# Altium schematic symbol library connectors.SchLib: 77 symbols
Pins are listed as number, name and electrical type; pins without a type are passive.

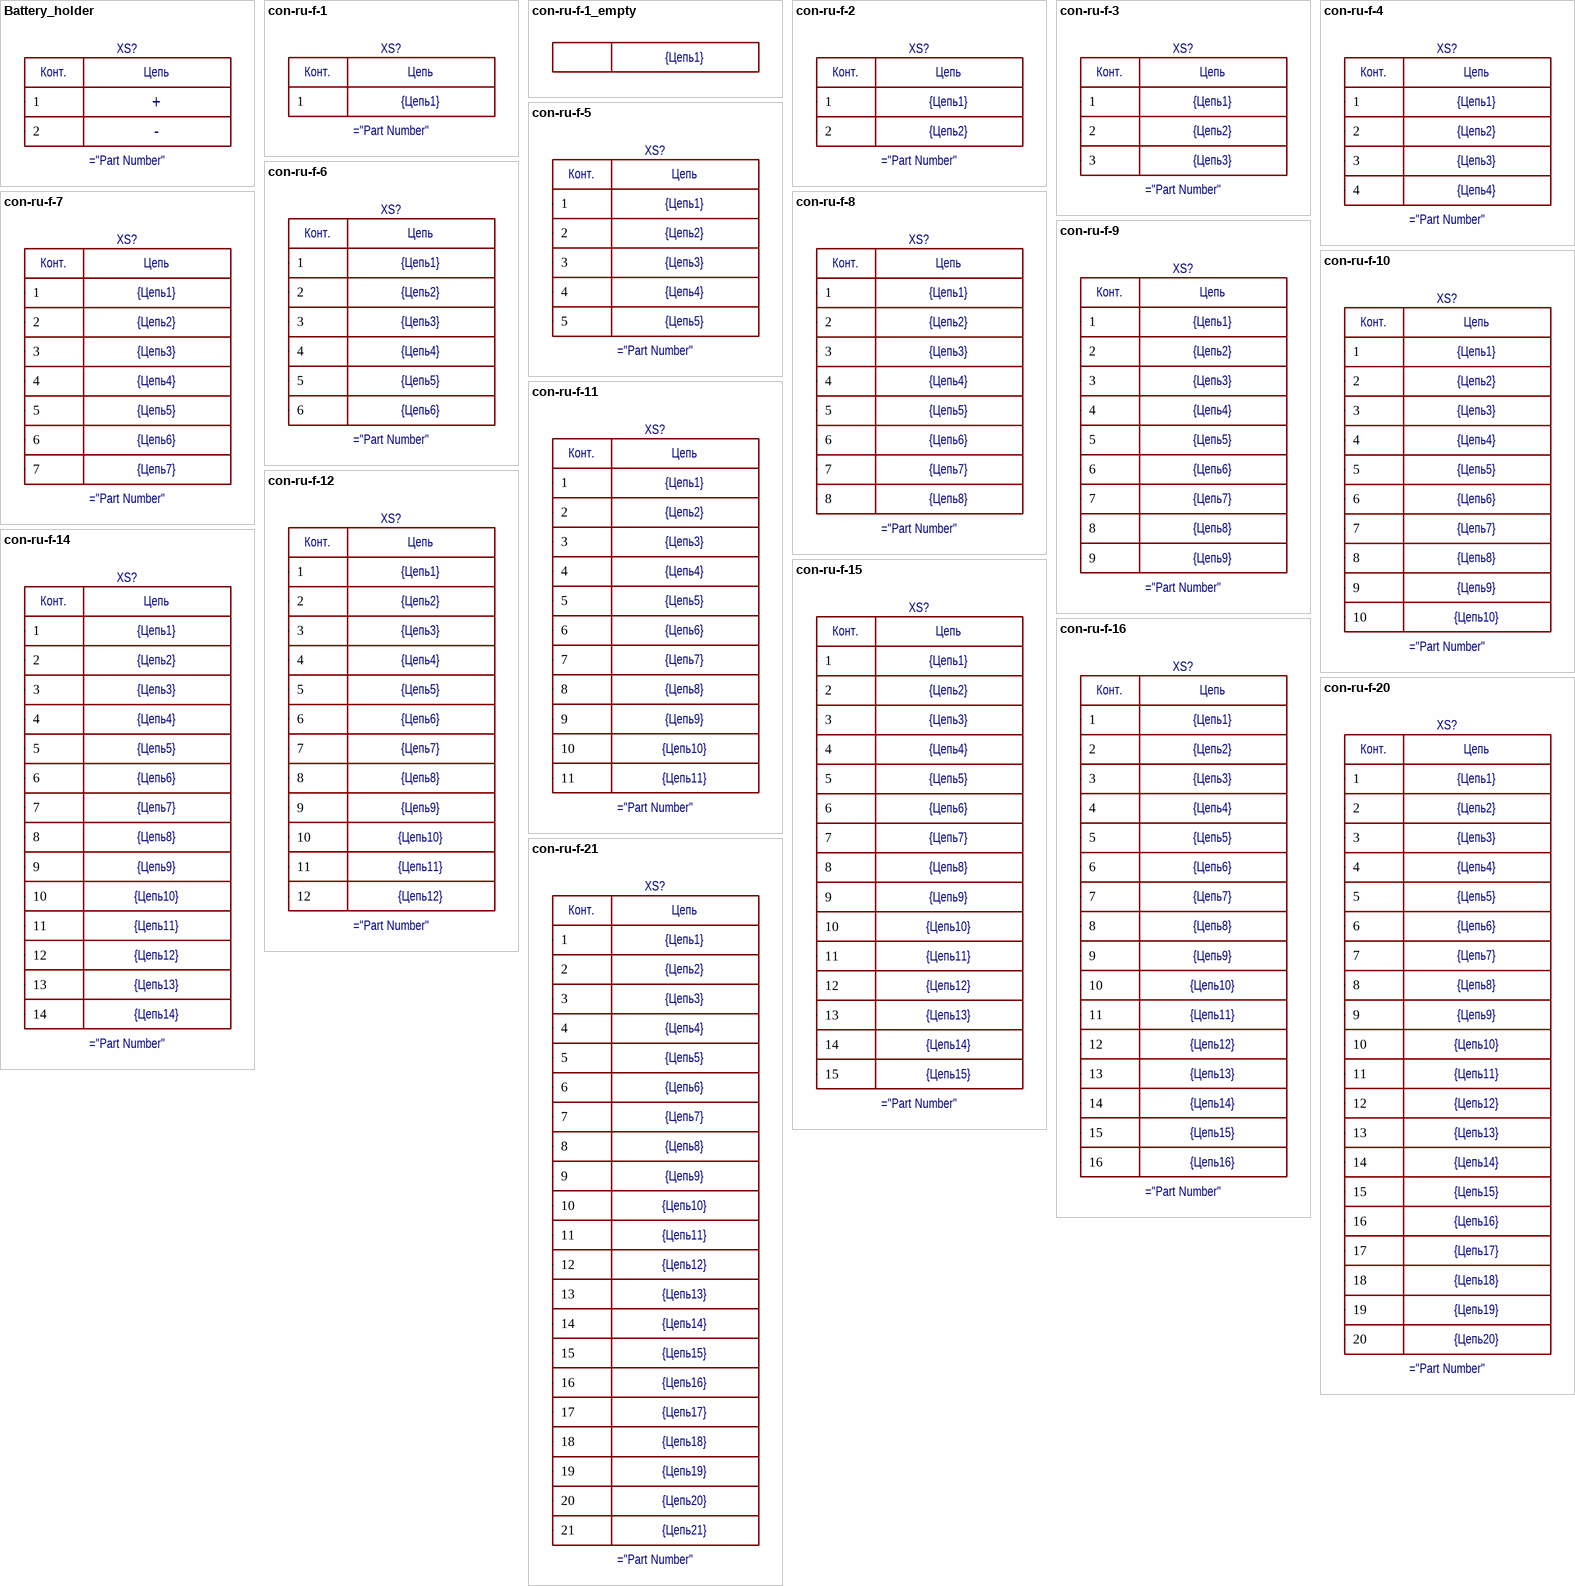
[diagram p0: symbols Battery_holder to con-ru-f-21]

## Battery_holder
designator XS?  Цепь1: +
Цепь2: -
pins: 1, 2
text: Конт.; Цепь

## con-ru-f-1
designator XS?  Цепь1: {Цепь1}
pins: 1
text: Конт.; Цепь

## con-ru-f-1_empty
designator XS?  Цепь1: {Цепь1}
pins: 1

## con-ru-f-2
designator XS?  Цепь2: {Цепь2}  Цепь1: {Цепь1}
pins: 1, 2
text: Конт.; Цепь

## con-ru-f-3
designator XS?  Цепь2: {Цепь2}  Цепь1: {Цепь1}  Цепь3: {Цепь3}
pins: 1, 2, 3
text: Конт.; Цепь

## con-ru-f-4
designator XS?  Цепь2: {Цепь2}  Цепь4: {Цепь4}  Цепь3: {Цепь3}  Цепь1: {Цепь1}
pins: 1, 2, 3, 4
text: Конт.; Цепь

## con-ru-f-5
designator XS?  Цепь5: {Цепь5}  Цепь2: {Цепь2}  Цепь4: {Цепь4}  Цепь3: {Цепь3}  Цепь1: {Цепь1}
pins: 1, 2, 3, 4, 5
text: Конт.; Цепь

## con-ru-f-6
designator XS?  Цепь5: {Цепь5}  Цепь2: {Цепь2}  Цепь6: {Цепь6}  Цепь4: {Цепь4}  Цепь3: {Цепь3}  Цепь1: {Цепь1}
pins: 1, 2, 3, 4, 5, 6
text: Конт.; Цепь

## con-ru-f-7
designator XS?  Цепь5: {Цепь5}  Цепь2: {Цепь2}  Цепь6: {Цепь6}  Цепь4: {Цепь4}  Цепь7: {Цепь7}  Цепь3: {Цепь3}  Цепь1: {Цепь1}
pins: 1, 2, 3, 4, 5, 6, 7
text: Конт.; Цепь

## con-ru-f-8
designator XS?  Цепь8: {Цепь8}  Цепь5: {Цепь5}  Цепь2: {Цепь2}  Цепь6: {Цепь6}  Цепь4: {Цепь4}  Цепь7: {Цепь7}  Цепь3: {Цепь3}  Цепь1: {Цепь1}
pins: 1, 2, 3, 4, 5, 6, 7, 8
text: Конт.; Цепь

## con-ru-f-9
designator XS?  Цепь8: {Цепь8}  Цепь5: {Цепь5}  Цепь2: {Цепь2}  Цепь6: {Цепь6}  Цепь4: {Цепь4}  Цепь7: {Цепь7}  Цепь3: {Цепь3}  Цепь1: {Цепь1}  Цепь9: {Цепь9}
pins: 1, 2, 3, 4, 5, 6, 7, 8, 9
text: Конт.; Цепь

## con-ru-f-10
designator XS?  Цепь8: {Цепь8}  Цепь5: {Цепь5}  Цепь2: {Цепь2}  Цепь6: {Цепь6}  Цепь4: {Цепь4}  Цепь7: {Цепь7}  Цепь3: {Цепь3}  Цепь1: {Цепь1}  Цепь9: {Цепь9}  Цепь10: {Цепь10}
pins: 1, 2, 3, 4, 5, 6, 7, 8, 9, 10
text: Конт.; Цепь

## con-ru-f-11
designator XS?  Цепь8: {Цепь8}  Цепь5: {Цепь5}  Цепь2: {Цепь2}  Цепь6: {Цепь6}  Цепь4: {Цепь4}  Цепь7: {Цепь7}  Цепь3: {Цепь3}  Цепь1: {Цепь1}  Цепь9: {Цепь9}  Цепь10: {Цепь10}  Цепь11: {Цепь11}
pins: 1, 2, 3, 4, 5, 6, 7, 8, 9, 10, 11
text: Конт.; Цепь

## con-ru-f-12
designator XS?  Цепь8: {Цепь8}  Цепь5: {Цепь5}  Цепь2: {Цепь2}  Цепь6: {Цепь6}  Цепь4: {Цепь4}  Цепь7: {Цепь7}  Цепь3: {Цепь3}  Цепь1: {Цепь1}  Цепь9: {Цепь9}  Цепь10: {Цепь10}  Цепь11: {Цепь11}  Цепь12: {Цепь12}
pins: 1, 2, 3, 4, 5, 6, 7, 8, 9, 10, 11, 12
text: Конт.; Цепь

## con-ru-f-14
designator XS?  Цепь8: {Цепь8}  Цепь5: {Цепь5}  Цепь2: {Цепь2}  Цепь6: {Цепь6}  Цепь4: {Цепь4}  Цепь7: {Цепь7}  Цепь3: {Цепь3}  Цепь1: {Цепь1}  Цепь9: {Цепь9}  Цепь10: {Цепь10}  Цепь11: {Цепь11}  Цепь12: {Цепь12}  Цепь13: {Цепь13}  Цепь14: {Цепь14}
pins: 1, 2, 3, 4, 5, 6, 7, 8, 9, 10, 11, 12, 13, 14
text: Конт.; Цепь

## con-ru-f-15
designator XS?  Цепь8: {Цепь8}  Цепь5: {Цепь5}  Цепь2: {Цепь2}  Цепь6: {Цепь6}  Цепь4: {Цепь4}  Цепь7: {Цепь7}  Цепь3: {Цепь3}  Цепь1: {Цепь1}  Цепь9: {Цепь9}  Цепь10: {Цепь10}  Цепь11: {Цепь11}  Цепь12: {Цепь12}  Цепь13: {Цепь13}  Цепь14: {Цепь14}  Цепь15: {Цепь15}
pins: 1, 2, 3, 4, 5, 6, 7, 8, 9, 10, 11, 12, 13, 14, 15
text: Конт.; Цепь

## con-ru-f-16
designator XS?  Цепь8: {Цепь8}  Цепь5: {Цепь5}  Цепь2: {Цепь2}  Цепь6: {Цепь6}  Цепь4: {Цепь4}  Цепь7: {Цепь7}  Цепь3: {Цепь3}  Цепь1: {Цепь1}  Цепь9: {Цепь9}  Цепь10: {Цепь10}  Цепь11: {Цепь11}  Цепь12: {Цепь12}  Цепь13: {Цепь13}  Цепь14: {Цепь14}  Цепь15: {Цепь15}  Цепь16: {Цепь16}
pins: 1, 2, 3, 4, 5, 6, 7, 8, 9, 10, 11, 12, 13, 14, 15, 16
text: Конт.; Цепь

## con-ru-f-20
designator XS?  Цепь18: {Цепь18}  Цепь15: {Цепь15}  Цепь12: {Цепь12}  Цепь10: {Цепь10}  Цепь9: {Цепь9}  Цепь7: {Цепь7}  Цепь6: {Цепь6}  Цепь4: {Цепь4}  Цепь3: {Цепь3}  Цепь1: {Цепь1}  Цепь20: {Цепь20}  Цепь17: {Цепь17}  Цепь19: {Цепь19}  Цепь14: {Цепь14}  Цепь11: {Цепь11}  Цепь13: {Цепь13}  Цепь8: {Цепь8}  Цепь5: {Цепь5}  Цепь2: {Цепь2}  Цепь16: {Цепь16}
pins: 1, 2, 3, 4, 5, 6, 7, 8, 9, 10, 11, 12, 13, 14, 15, 16, 17, 18, 19, 20
text: Конт.; Цепь

## con-ru-f-21
designator XS?  Цепь21: {Цепь21}  Цепь18: {Цепь18}  Цепь15: {Цепь15}  Цепь12: {Цепь12}  Цепь10: {Цепь10}  Цепь9: {Цепь9}  Цепь7: {Цепь7}  Цепь6: {Цепь6}  Цепь4: {Цепь4}  Цепь3: {Цепь3}  Цепь1: {Цепь1}  Цепь20: {Цепь20}  Цепь17: {Цепь17}  Цепь19: {Цепь19}  Цепь14: {Цепь14}  Цепь11: {Цепь11}  Цепь13: {Цепь13}  Цепь8: {Цепь8}  Цепь5: {Цепь5}  Цепь2: {Цепь2}  Цепь16: {Цепь16}
pins: 1, 2, 3, 4, 5, 6, 7, 8, 9, 10, 11, 12, 13, 14, 15, 16, 17, 18, 19, 20, 21
text: Конт.; Цепь

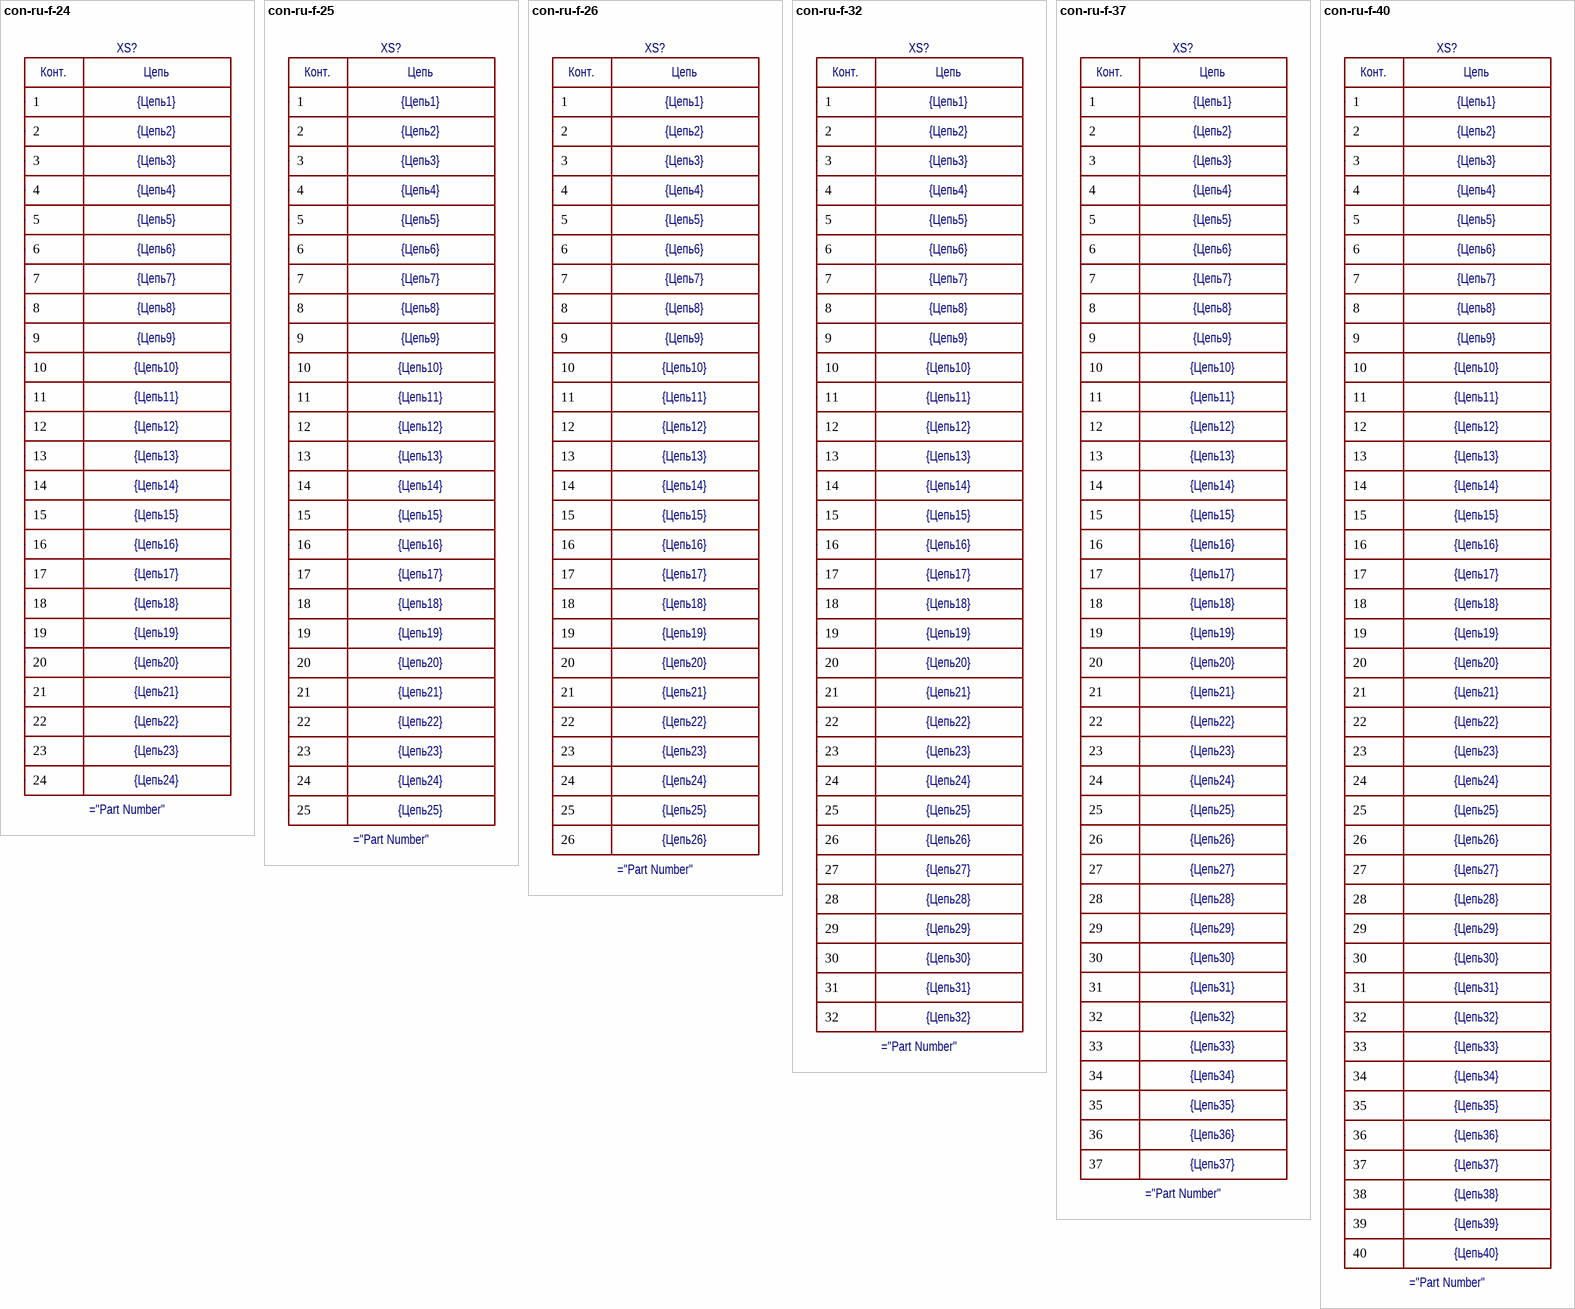
[diagram p1: symbols con-ru-f-24 to con-ru-f-40]

## con-ru-f-24
designator XS?  Цепь24: {Цепь24}  Цепь21: {Цепь21}  Цепь18: {Цепь18}  Цепь15: {Цепь15}  Цепь12: {Цепь12}  Цепь10: {Цепь10}  Цепь9: {Цепь9}  Цепь7: {Цепь7}  Цепь6: {Цепь6}  Цепь4: {Цепь4}  Цепь3: {Цепь3}  Цепь1: {Цепь1}  Цепь23: {Цепь23}  Цепь20: {Цепь20}  Цепь17: {Цепь17}  Цепь22: {Цепь22}  Цепь19: {Цепь19}  Цепь14: {Цепь14}  Цепь11: {Цепь11}  Цепь13: {Цепь13}  Цепь8: {Цепь8}  Цепь5: {Цепь5}  Цепь2: {Цепь2}  Цепь16: {Цепь16}
pins: 1, 2, 3, 4, 5, 6, 7, 8, 9, 10, 11, 12, 13, 14, 15, 16, 17, 18, 19, 20, 21, 22, 23, 24
text: Конт.; Цепь

## con-ru-f-25
designator XS?  Цепь24: {Цепь24}  Цепь21: {Цепь21}  Цепь18: {Цепь18}  Цепь15: {Цепь15}  Цепь12: {Цепь12}  Цепь10: {Цепь10}  Цепь9: {Цепь9}  Цепь7: {Цепь7}  Цепь6: {Цепь6}  Цепь4: {Цепь4}  Цепь3: {Цепь3}  Цепь1: {Цепь1}  Цепь23: {Цепь23}  Цепь25: {Цепь25}  Цепь20: {Цепь20}  Цепь17: {Цепь17}  Цепь22: {Цепь22}  Цепь19: {Цепь19}  Цепь14: {Цепь14}  Цепь11: {Цепь11}  Цепь13: {Цепь13}  Цепь8: {Цепь8}  Цепь5: {Цепь5}  Цепь2: {Цепь2}  Цепь16: {Цепь16}
pins: 1, 2, 3, 4, 5, 6, 7, 8, 9, 10, 11, 12, 13, 14, 15, 16, 17, 18, 19, 20, 21, 22, 23, 24, 25
text: Конт.; Цепь

## con-ru-f-26
designator XS?  Цепь24: {Цепь24}  Цепь21: {Цепь21}  Цепь18: {Цепь18}  Цепь15: {Цепь15}  Цепь12: {Цепь12}  Цепь10: {Цепь10}  Цепь9: {Цепь9}  Цепь7: {Цепь7}  Цепь6: {Цепь6}  Цепь4: {Цепь4}  Цепь3: {Цепь3}  Цепь1: {Цепь1}  Цепь26: {Цепь26}  Цепь23: {Цепь23}  Цепь25: {Цепь25}  Цепь20: {Цепь20}  Цепь17: {Цепь17}  Цепь22: {Цепь22}  Цепь19: {Цепь19}  Цепь14: {Цепь14}  Цепь11: {Цепь11}  Цепь13: {Цепь13}  Цепь8: {Цепь8}  Цепь5: {Цепь5}  Цепь2: {Цепь2}  Цепь16: {Цепь16}
pins: 1, 2, 3, 4, 5, 6, 7, 8, 9, 10, 11, 12, 13, 14, 15, 16, 17, 18, 19, 20, 21, 22, 23, 24, 25, 26
text: Конт.; Цепь

## con-ru-f-32
designator XS?  Цепь30: {Цепь30}  Цепь27: {Цепь27}  Цепь24: {Цепь24}  Цепь21: {Цепь21}  Цепь18: {Цепь18}  Цепь15: {Цепь15}  Цепь12: {Цепь12}  Цепь10: {Цепь10}  Цепь9: {Цепь9}  Цепь7: {Цепь7}  Цепь6: {Цепь6}  Цепь4: {Цепь4}  Цепь3: {Цепь3}  Цепь1: {Цепь1}  Цепь32: {Цепь32}  Цепь31: {Цепь31}  Цепь28: {Цепь28}  Цепь26: {Цепь26}  Цепь23: {Цепь23}  Цепь25: {Цепь25}  Цепь20: {Цепь20}  Цепь17: {Цепь17}  Цепь22: {Цепь22}  Цепь19: {Цепь19}  Цепь14: {Цепь14}  Цепь11: {Цепь11}  Цепь13: {Цепь13}  Цепь8: {Цепь8}  Цепь5: {Цепь5}  Цепь2: {Цепь2}  Цепь29: {Цепь29}  Цепь16: {Цепь16}
pins: 1, 2, 3, 4, 5, 6, 7, 8, 9, 10, 11, 12, 13, 14, 15, 16, 17, 18, 19, 20, 21, 22, 23, 24, 25, 26, 27, 28, 29, 30, 31, 32
text: Конт.; Цепь

## con-ru-f-37
designator XS?  Цепь36: {Цепь36}  Цепь35: {Цепь35}  Цепь33: {Цепь33}  Цепь30: {Цепь30}  Цепь27: {Цепь27}  Цепь24: {Цепь24}  Цепь21: {Цепь21}  Цепь18: {Цепь18}  Цепь15: {Цепь15}  Цепь12: {Цепь12}  Цепь10: {Цепь10}  Цепь9: {Цепь9}  Цепь7: {Цепь7}  Цепь6: {Цепь6}  Цепь4: {Цепь4}  Цепь3: {Цепь3}  Цепь1: {Цепь1}  Цепь37: {Цепь37}  Цепь34: {Цепь34}  Цепь32: {Цепь32}  Цепь31: {Цепь31}  Цепь28: {Цепь28}  Цепь26: {Цепь26}  Цепь23: {Цепь23}  Цепь25: {Цепь25}  Цепь20: {Цепь20}  Цепь17: {Цепь17}  Цепь22: {Цепь22}  Цепь19: {Цепь19}  Цепь14: {Цепь14}  Цепь11: {Цепь11}  Цепь13: {Цепь13}  Цепь8: {Цепь8}  Цепь5: {Цепь5}  Цепь2: {Цепь2}  Цепь29: {Цепь29}  Цепь16: {Цепь16}
pins: 1, 2, 3, 4, 5, 6, 7, 8, 9, 10, 11, 12, 13, 14, 15, 16, 17, 18, 19, 20, 21, 22, 23, 24, 25, 26, 27, 28, 29, 30, 31, 32, 33, 34, 35, 36, 37
text: Конт.; Цепь

## con-ru-f-40
designator XS?  Цепь39: {Цепь39}  Цепь38: {Цепь38}  Цепь36: {Цепь36}  Цепь35: {Цепь35}  Цепь33: {Цепь33}  Цепь30: {Цепь30}  Цепь27: {Цепь27}  Цепь24: {Цепь24}  Цепь21: {Цепь21}  Цепь18: {Цепь18}  Цепь15: {Цепь15}  Цепь12: {Цепь12}  Цепь10: {Цепь10}  Цепь9: {Цепь9}  Цепь7: {Цепь7}  Цепь6: {Цепь6}  Цепь4: {Цепь4}  Цепь3: {Цепь3}  Цепь1: {Цепь1}  Цепь37: {Цепь37}  Цепь40: {Цепь40}  Цепь34: {Цепь34}  Цепь32: {Цепь32}  Цепь31: {Цепь31}  Цепь28: {Цепь28}  Цепь26: {Цепь26}  Цепь23: {Цепь23}  Цепь25: {Цепь25}  Цепь20: {Цепь20}  Цепь17: {Цепь17}  Цепь22: {Цепь22}  Цепь19: {Цепь19}  Цепь14: {Цепь14}  Цепь11: {Цепь11}  Цепь13: {Цепь13}  Цепь8: {Цепь8}  Цепь5: {Цепь5}  Цепь2: {Цепь2}  Цепь29: {Цепь29}  Цепь16: {Цепь16}
pins: 1, 2, 3, 4, 5, 6, 7, 8, 9, 10, 11, 12, 13, 14, 15, 16, 17, 18, 19, 20, 21, 22, 23, 24, 25, 26, 27, 28, 29, 30, 31, 32, 33, 34, 35, 36, 37, 38, 39, 40
text: Конт.; Цепь

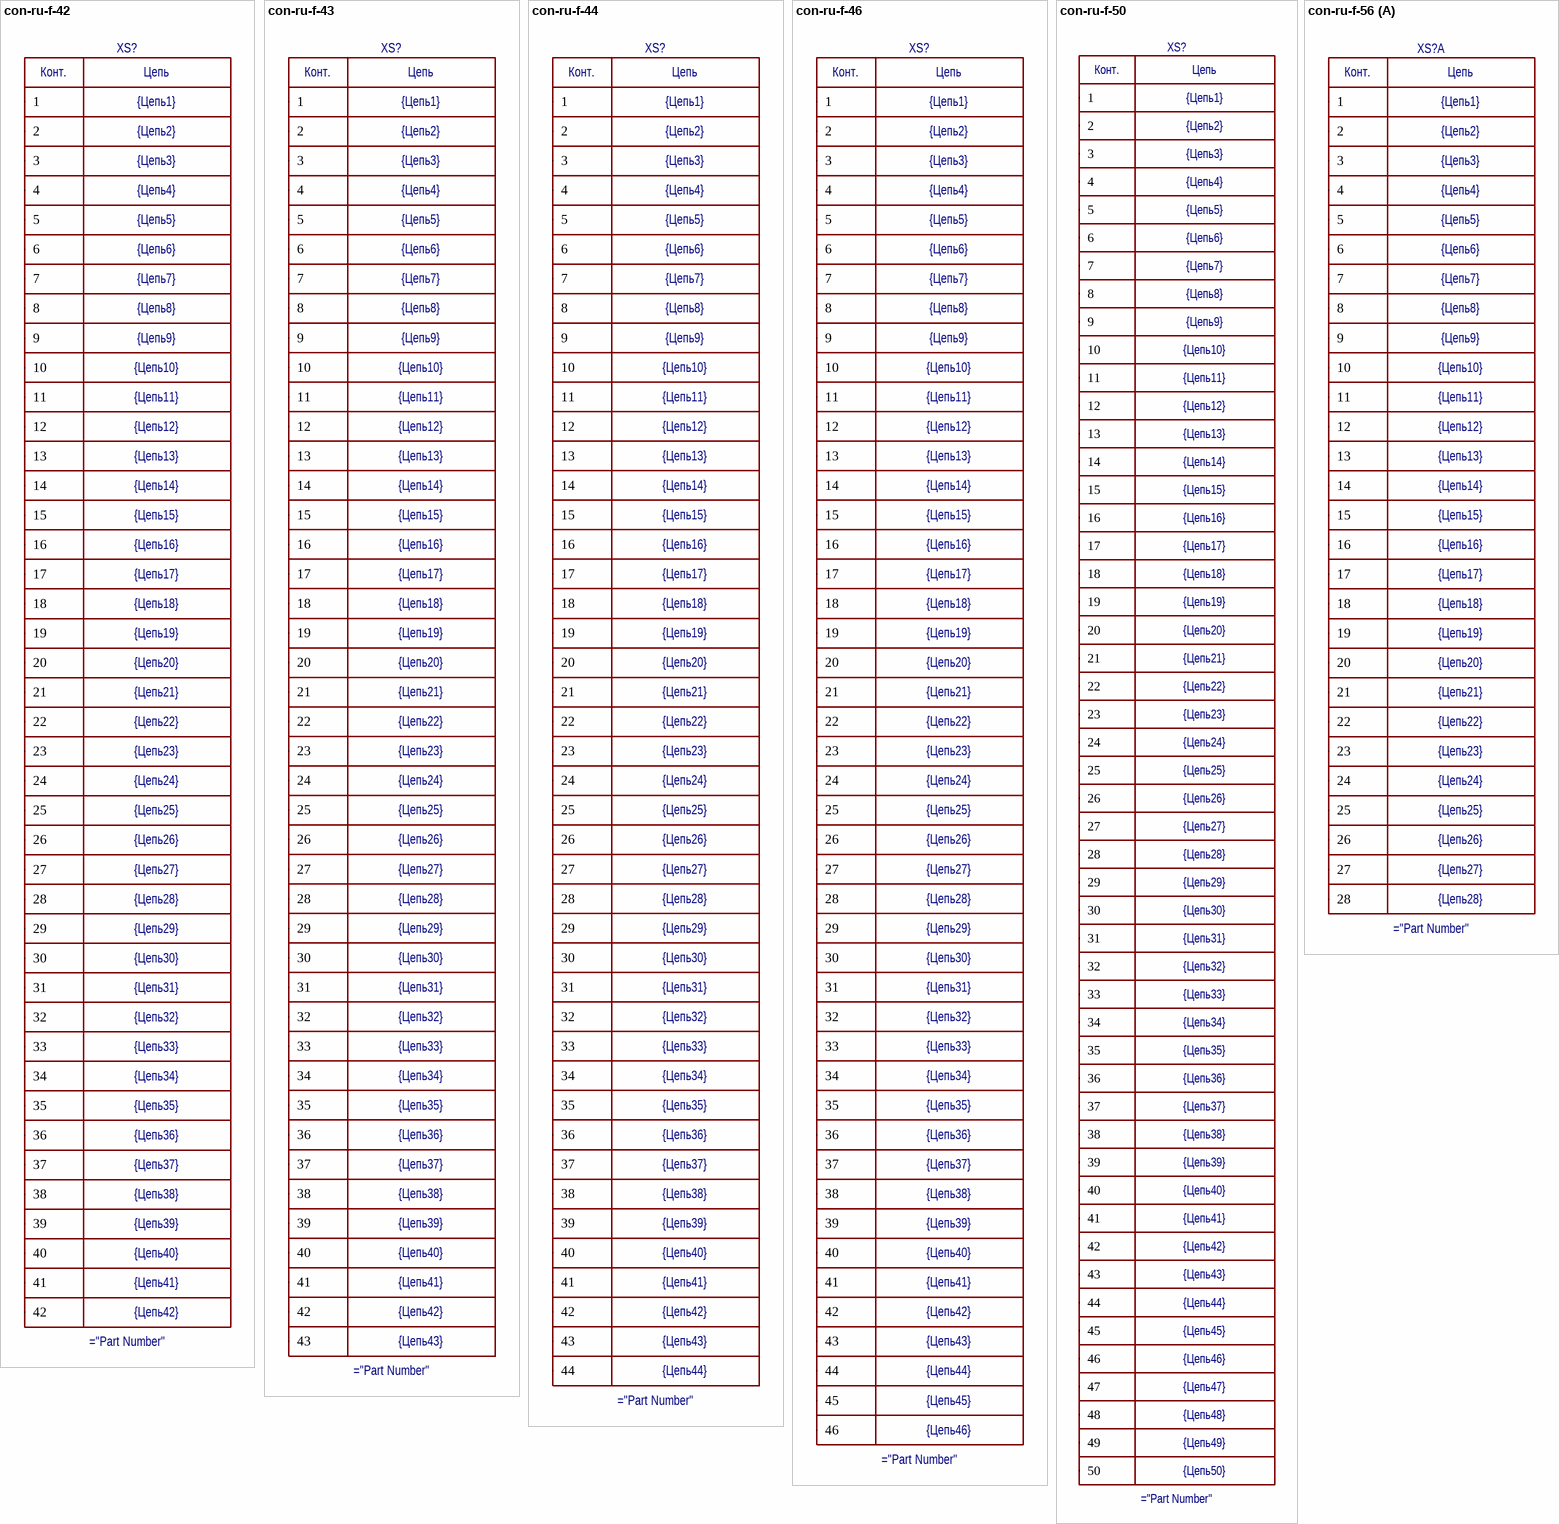
[diagram p2: symbols con-ru-f-42 to con-ru-f-56]

## con-ru-f-42
designator XS?  Цепь42: {Цепь42}  Цепь41: {Цепь41}  Цепь39: {Цепь39}  Цепь38: {Цепь38}  Цепь36: {Цепь36}  Цепь35: {Цепь35}  Цепь33: {Цепь33}  Цепь30: {Цепь30}  Цепь27: {Цепь27}  Цепь24: {Цепь24}  Цепь21: {Цепь21}  Цепь18: {Цепь18}  Цепь15: {Цепь15}  Цепь12: {Цепь12}  Цепь10: {Цепь10}  Цепь9: {Цепь9}  Цепь7: {Цепь7}  Цепь6: {Цепь6}  Цепь4: {Цепь4}  Цепь3: {Цепь3}  Цепь1: {Цепь1}  Цепь37: {Цепь37}  Цепь40: {Цепь40}  Цепь34: {Цепь34}  Цепь32: {Цепь32}  Цепь31: {Цепь31}  Цепь28: {Цепь28}  Цепь26: {Цепь26}  Цепь23: {Цепь23}  Цепь25: {Цепь25}  Цепь20: {Цепь20}  Цепь17: {Цепь17}  Цепь22: {Цепь22}  Цепь19: {Цепь19}  Цепь14: {Цепь14}  Цепь11: {Цепь11}  Цепь13: {Цепь13}  Цепь8: {Цепь8}  Цепь5: {Цепь5}  Цепь2: {Цепь2}  Цепь29: {Цепь29}  Цепь16: {Цепь16}
pins: 1, 2, 3, 4, 5, 6, 7, 8, 9, 10, 11, 12, 13, 14, 15, 16, 17, 18, 19, 20, 21, 22, 23, 24, 25, 26, 27, 28, 29, 30, 31, 32, 33, 34, 35, 36, 37, 38, 39, 40, 41, 42
text: Конт.; Цепь

## con-ru-f-43
designator XS?  Цепь42: {Цепь42}  Цепь41: {Цепь41}  Цепь39: {Цепь39}  Цепь38: {Цепь38}  Цепь36: {Цепь36}  Цепь35: {Цепь35}  Цепь33: {Цепь33}  Цепь30: {Цепь30}  Цепь27: {Цепь27}  Цепь24: {Цепь24}  Цепь21: {Цепь21}  Цепь18: {Цепь18}  Цепь15: {Цепь15}  Цепь12: {Цепь12}  Цепь10: {Цепь10}  Цепь9: {Цепь9}  Цепь7: {Цепь7}  Цепь6: {Цепь6}  Цепь4: {Цепь4}  Цепь3: {Цепь3}  Цепь1: {Цепь1}  Цепь37: {Цепь37}  Цепь40: {Цепь40}  Цепь34: {Цепь34}  Цепь32: {Цепь32}  Цепь31: {Цепь31}  Цепь28: {Цепь28}  Цепь26: {Цепь26}  Цепь23: {Цепь23}  Цепь25: {Цепь25}  Цепь20: {Цепь20}  Цепь17: {Цепь17}  Цепь22: {Цепь22}  Цепь19: {Цепь19}  Цепь14: {Цепь14}  Цепь11: {Цепь11}  Цепь13: {Цепь13}  Цепь8: {Цепь8}  Цепь5: {Цепь5}  Цепь2: {Цепь2}  Цепь29: {Цепь29}  Цепь16: {Цепь16}  Цепь43: {Цепь43}
pins: 1, 2, 3, 4, 5, 6, 7, 8, 9, 10, 11, 12, 13, 14, 15, 16, 17, 18, 19, 20, 21, 22, 23, 24, 25, 26, 27, 28, 29, 30, 31, 32, 33, 34, 35, 36, 37, 38, 39, 40, 41, 42, 43
text: Конт.; Цепь

## con-ru-f-44
designator XS?  Цепь42: {Цепь42}  Цепь41: {Цепь41}  Цепь39: {Цепь39}  Цепь38: {Цепь38}  Цепь36: {Цепь36}  Цепь35: {Цепь35}  Цепь33: {Цепь33}  Цепь30: {Цепь30}  Цепь27: {Цепь27}  Цепь24: {Цепь24}  Цепь21: {Цепь21}  Цепь18: {Цепь18}  Цепь15: {Цепь15}  Цепь12: {Цепь12}  Цепь10: {Цепь10}  Цепь9: {Цепь9}  Цепь7: {Цепь7}  Цепь6: {Цепь6}  Цепь4: {Цепь4}  Цепь3: {Цепь3}  Цепь1: {Цепь1}  Цепь37: {Цепь37}  Цепь40: {Цепь40}  Цепь34: {Цепь34}  Цепь32: {Цепь32}  Цепь31: {Цепь31}  Цепь28: {Цепь28}  Цепь26: {Цепь26}  Цепь23: {Цепь23}  Цепь25: {Цепь25}  Цепь20: {Цепь20}  Цепь17: {Цепь17}  Цепь22: {Цепь22}  Цепь19: {Цепь19}  Цепь14: {Цепь14}  Цепь11: {Цепь11}  Цепь13: {Цепь13}  Цепь8: {Цепь8}  Цепь5: {Цепь5}  Цепь2: {Цепь2}  Цепь29: {Цепь29}  Цепь16: {Цепь16}  Цепь43: {Цепь43}  Цепь44: {Цепь44}
pins: 1, 2, 3, 4, 5, 6, 7, 8, 9, 10, 11, 12, 13, 14, 15, 16, 17, 18, 19, 20, 21, 22, 23, 24, 25, 26, 27, 28, 29, 30, 31, 32, 33, 34, 35, 36, 37, 38, 39, 40, 41, 42, 43, 44
text: Конт.; Цепь

## con-ru-f-46
designator XS?  Цепь42: {Цепь42}  Цепь41: {Цепь41}  Цепь39: {Цепь39}  Цепь38: {Цепь38}  Цепь36: {Цепь36}  Цепь35: {Цепь35}  Цепь33: {Цепь33}  Цепь30: {Цепь30}  Цепь27: {Цепь27}  Цепь24: {Цепь24}  Цепь21: {Цепь21}  Цепь18: {Цепь18}  Цепь15: {Цепь15}  Цепь12: {Цепь12}  Цепь10: {Цепь10}  Цепь9: {Цепь9}  Цепь7: {Цепь7}  Цепь6: {Цепь6}  Цепь4: {Цепь4}  Цепь3: {Цепь3}  Цепь1: {Цепь1}  Цепь37: {Цепь37}  Цепь40: {Цепь40}  Цепь34: {Цепь34}  Цепь32: {Цепь32}  Цепь31: {Цепь31}  Цепь28: {Цепь28}  Цепь26: {Цепь26}  Цепь23: {Цепь23}  Цепь25: {Цепь25}  Цепь20: {Цепь20}  Цепь17: {Цепь17}  Цепь22: {Цепь22}  Цепь19: {Цепь19}  Цепь14: {Цепь14}  Цепь11: {Цепь11}  Цепь13: {Цепь13}  Цепь8: {Цепь8}  Цепь5: {Цепь5}  Цепь2: {Цепь2}  Цепь29: {Цепь29}  Цепь16: {Цепь16}  Цепь43: {Цепь43}  Цепь44: {Цепь44}  Цепь45: {Цепь45}  Цепь46: {Цепь46}
pins: 1, 2, 3, 4, 5, 6, 7, 8, 9, 10, 11, 12, 13, 14, 15, 16, 17, 18, 19, 20, 21, 22, 23, 24, 25, 26, 27, 28, 29, 30, 31, 32, 33, 34, 35, 36, 37, 38, 39, 40, 41, 42, 43, 44, 45, 46
text: Конт.; Цепь

## con-ru-f-50
designator XS?  Цепь49: {Цепь49}  Цепь46: {Цепь46}  Цепь44: {Цепь44}  Цепь43: {Цепь43}  Цепь41: {Цепь41}  Цепь40: {Цепь40}  Цепь38: {Цепь38}  Цепь37: {Цепь37}  Цепь35: {Цепь35}  Цепь32: {Цепь32}  Цепь29: {Цепь29}  Цепь26: {Цепь26}  Цепь23: {Цепь23}  Цепь20: {Цепь20}  Цепь17: {Цепь17}  Цепь14: {Цепь14}  Цепь12: {Цепь12}  Цепь11: {Цепь11}  Цепь9: {Цепь9}  Цепь8: {Цепь8}  Цепь6: {Цепь6}  Цепь5: {Цепь5}  Цепь3: {Цепь3}  Цепь50: {Цепь50}  Цепь48: {Цепь48}  Цепь45: {Цепь45}  Цепь42: {Цепь42}  Цепь36: {Цепь36}  Цепь39: {Цепь39}  Цепь33: {Цепь33}  Цепь30: {Цепь30}  Цепь34: {Цепь34}  Цепь31: {Цепь31}  Цепь27: {Цепь27}  Цепь24: {Цепь24}  Цепь28: {Цепь28}  Цепь25: {Цепь25}  Цепь21: {Цепь21}  Цепь18: {Цепь18}  Цепь22: {Цепь22}  Цепь19: {Цепь19}  Цепь15: {Цепь15}  Цепь16: {Цепь16}  Цепь13: {Цепь13}  Цепь7: {Цепь7}  Цепь10: {Цепь10}  Цепь4: {Цепь4}  Цепь1: {Цепь1}  Цепь2: {Цепь2}  Цепь47: {Цепь47}
pins: 1, 2, 3, 4, 5, 6, 7, 8, 9, 10, 11, 12, 13, 14, 15, 16, 17, 18, 19, 20, 21, 22, 23, 24, 25, 26, 27, 28, 29, 30, 31, 32, 33, 34, 35, 36, 37, 38, 39, 40, 41, 42, 43, 44, 45, 46, 47, 48, 49, 50
text: Конт.; Цепь

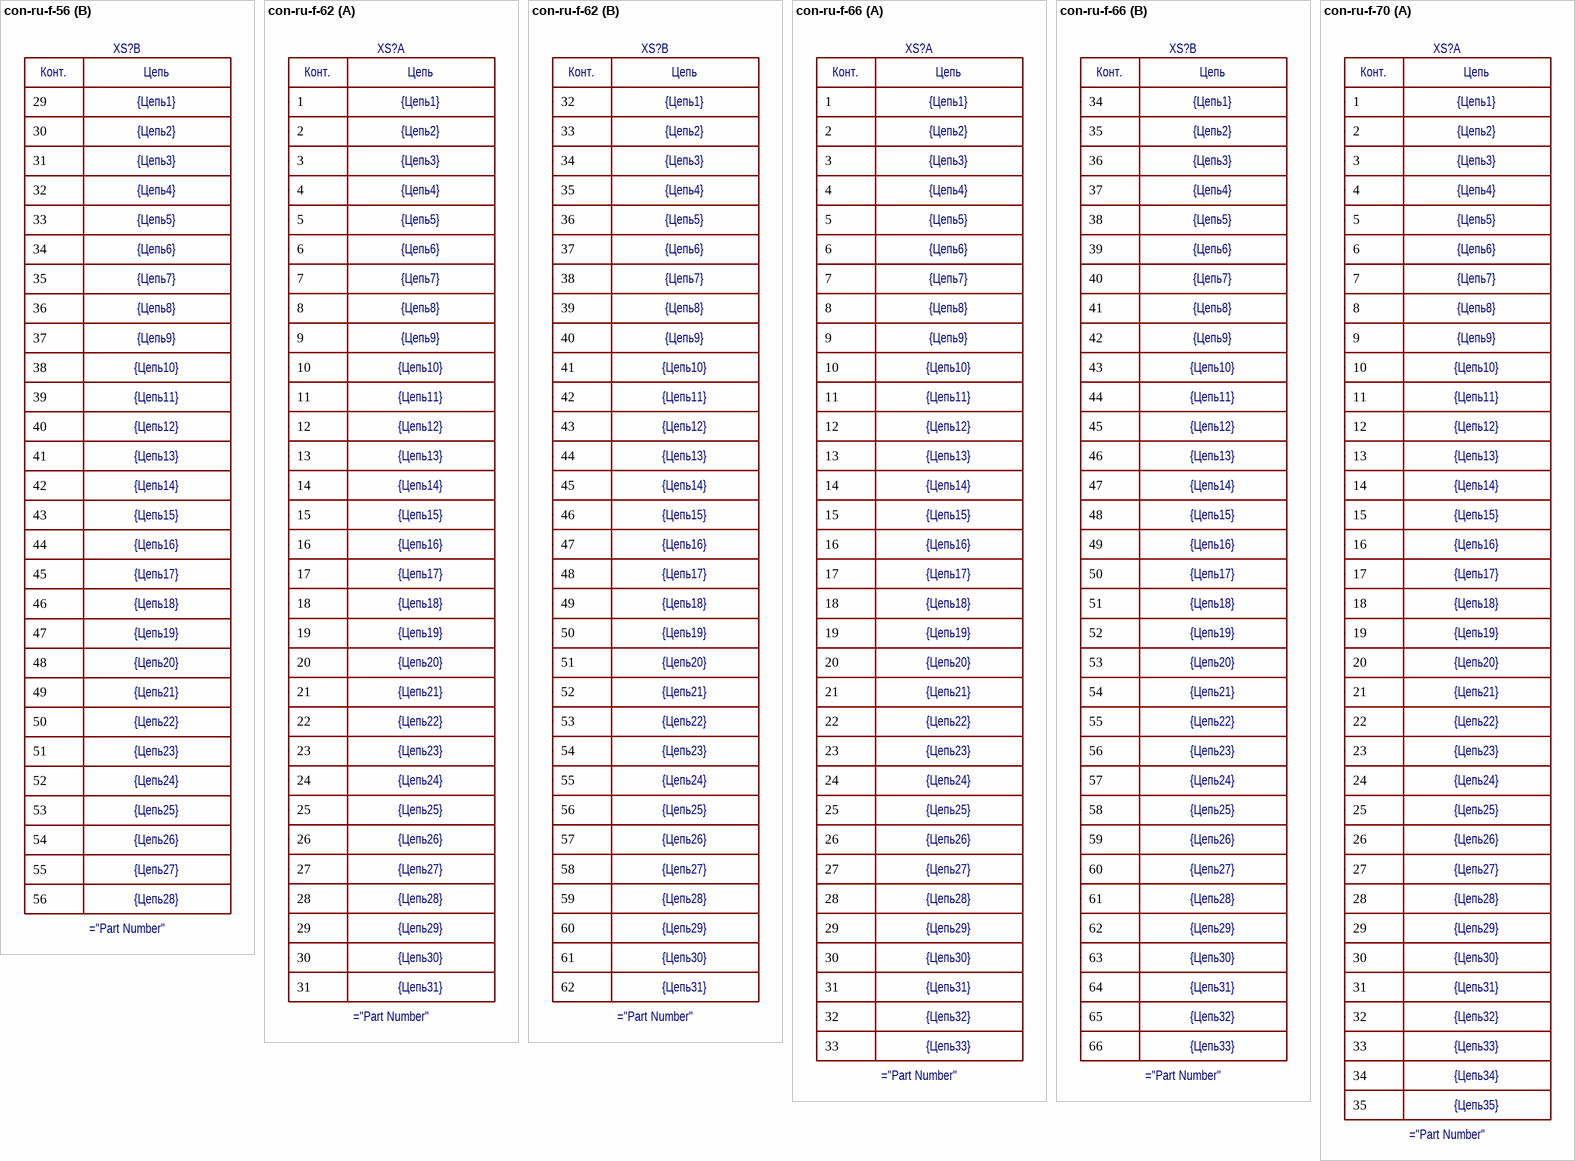
[diagram p3: symbols con-ru-f-56 to con-ru-f-70]

## con-ru-f-56
designator XS?  Цепь26: {Цепь26}  Цепь23: {Цепь23}  Цепь20: {Цепь20}  Цепь17: {Цепь17}  Цепь14: {Цепь14}  Цепь12: {Цепь12}  Цепь11: {Цепь11}  Цепь9: {Цепь9}  Цепь8: {Цепь8}  Цепь6: {Цепь6}  Цепь5: {Цепь5}  Цепь3: {Цепь3}  Цепь24: {Цепь24}  Цепь25: {Цепь25}  Цепь21: {Цепь21}  Цепь18: {Цепь18}  Цепь22: {Цепь22}  Цепь19: {Цепь19}  Цепь15: {Цепь15}  Цепь16: {Цепь16}  Цепь13: {Цепь13}  Цепь7: {Цепь7}  Цепь10: {Цепь10}  Цепь4: {Цепь4}  Цепь1: {Цепь1}  Цепь2: {Цепь2}  Цепь27: {Цепь27}  Цепь28: {Цепь28}
part A pins: 1, 2, 3, 4, 5, 6, 7, 8, 9, 10, 11, 12, 13, 14, 15, 16, 17, 18, 19, 20, 21, 22, 23, 24, 25, 26, 27, 28
part B pins: 29, 30, 31, 32, 33, 34, 35, 36, 37, 38, 39, 40, 41, 42, 43, 44, 45, 46, 47, 48, 49, 50, 51, 52, 53, 54, 55, 56
part A text: Конт.; Цепь
part B text: Конт.; Цепь

## con-ru-f-62
designator XS?  Цепь26: {Цепь26}  Цепь23: {Цепь23}  Цепь20: {Цепь20}  Цепь17: {Цепь17}  Цепь14: {Цепь14}  Цепь12: {Цепь12}  Цепь11: {Цепь11}  Цепь9: {Цепь9}  Цепь8: {Цепь8}  Цепь6: {Цепь6}  Цепь5: {Цепь5}  Цепь3: {Цепь3}  Цепь24: {Цепь24}  Цепь25: {Цепь25}  Цепь21: {Цепь21}  Цепь18: {Цепь18}  Цепь22: {Цепь22}  Цепь19: {Цепь19}  Цепь15: {Цепь15}  Цепь16: {Цепь16}  Цепь13: {Цепь13}  Цепь7: {Цепь7}  Цепь10: {Цепь10}  Цепь4: {Цепь4}  Цепь1: {Цепь1}  Цепь2: {Цепь2}  Цепь27: {Цепь27}  Цепь28: {Цепь28}  Цепь29: {Цепь29}  Цепь30: {Цепь30}  Цепь31: {Цепь31}
part A pins: 1, 2, 3, 4, 5, 6, 7, 8, 9, 10, 11, 12, 13, 14, 15, 16, 17, 18, 19, 20, 21, 22, 23, 24, 25, 26, 27, 28, 29, 30, 31
part B pins: 32, 33, 34, 35, 36, 37, 38, 39, 40, 41, 42, 43, 44, 45, 46, 47, 48, 49, 50, 51, 52, 53, 54, 55, 56, 57, 58, 59, 60, 61, 62
part A text: Конт.; Цепь
part B text: Конт.; Цепь

## con-ru-f-66
designator XS?  Цепь26: {Цепь26}  Цепь23: {Цепь23}  Цепь20: {Цепь20}  Цепь17: {Цепь17}  Цепь14: {Цепь14}  Цепь12: {Цепь12}  Цепь11: {Цепь11}  Цепь9: {Цепь9}  Цепь8: {Цепь8}  Цепь6: {Цепь6}  Цепь5: {Цепь5}  Цепь3: {Цепь3}  Цепь24: {Цепь24}  Цепь25: {Цепь25}  Цепь21: {Цепь21}  Цепь18: {Цепь18}  Цепь22: {Цепь22}  Цепь19: {Цепь19}  Цепь15: {Цепь15}  Цепь16: {Цепь16}  Цепь13: {Цепь13}  Цепь7: {Цепь7}  Цепь10: {Цепь10}  Цепь4: {Цепь4}  Цепь1: {Цепь1}  Цепь2: {Цепь2}  Цепь27: {Цепь27}  Цепь28: {Цепь28}  Цепь29: {Цепь29}  Цепь30: {Цепь30}  Цепь31: {Цепь31}  Цепь32: {Цепь32}  Цепь33: {Цепь33}
part A pins: 1, 2, 3, 4, 5, 6, 7, 8, 9, 10, 11, 12, 13, 14, 15, 16, 17, 18, 19, 20, 21, 22, 23, 24, 25, 26, 27, 28, 29, 30, 31, 32, 33
part B pins: 34, 35, 36, 37, 38, 39, 40, 41, 42, 43, 44, 45, 46, 47, 48, 49, 50, 51, 52, 53, 54, 55, 56, 57, 58, 59, 60, 61, 62, 63, 64, 65, 66
part A text: Конт.; Цепь
part B text: Конт.; Цепь

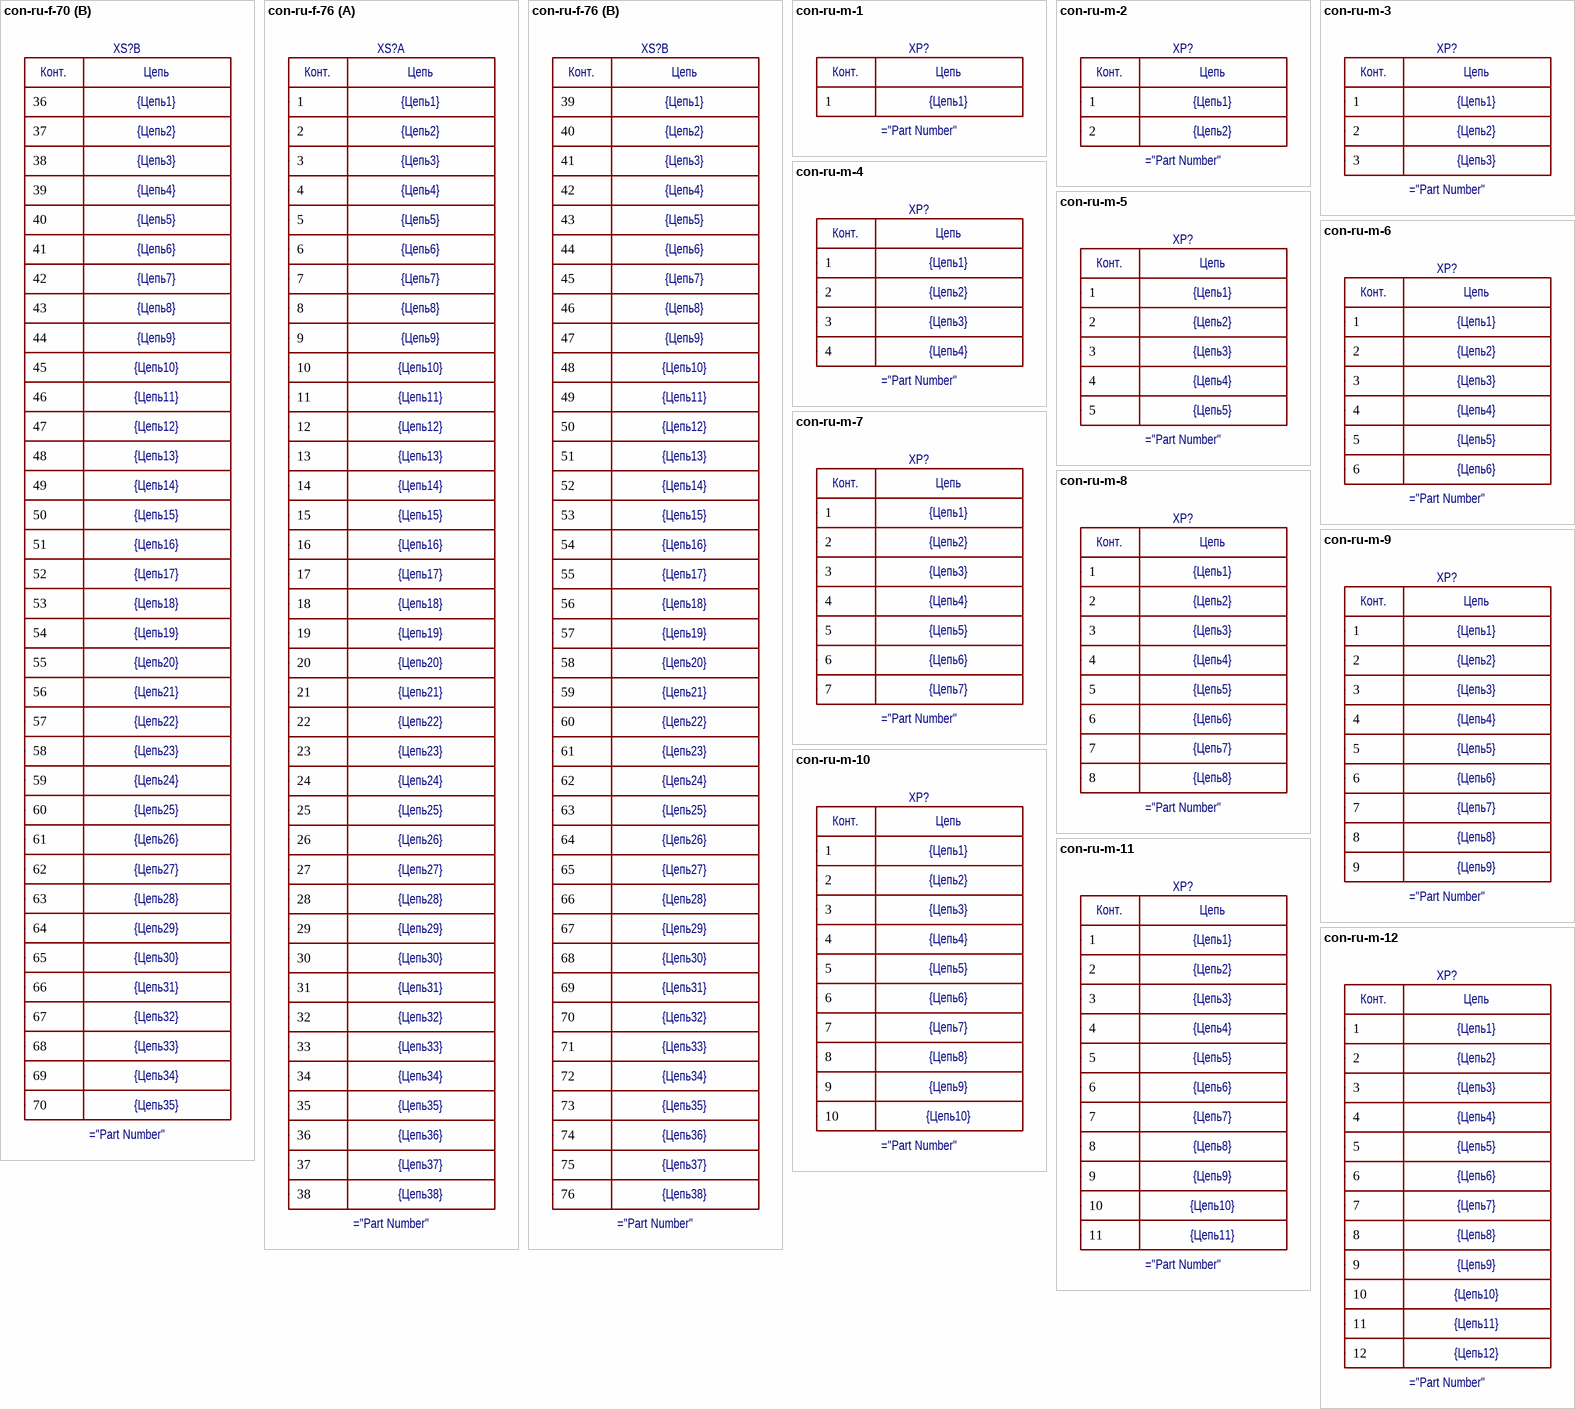
[diagram p4: symbols con-ru-f-70 to con-ru-m-12]

## con-ru-f-70
designator XS?  Цепь26: {Цепь26}  Цепь23: {Цепь23}  Цепь20: {Цепь20}  Цепь17: {Цепь17}  Цепь14: {Цепь14}  Цепь12: {Цепь12}  Цепь11: {Цепь11}  Цепь9: {Цепь9}  Цепь8: {Цепь8}  Цепь6: {Цепь6}  Цепь5: {Цепь5}  Цепь3: {Цепь3}  Цепь24: {Цепь24}  Цепь25: {Цепь25}  Цепь21: {Цепь21}  Цепь18: {Цепь18}  Цепь22: {Цепь22}  Цепь19: {Цепь19}  Цепь15: {Цепь15}  Цепь16: {Цепь16}  Цепь13: {Цепь13}  Цепь7: {Цепь7}  Цепь10: {Цепь10}  Цепь4: {Цепь4}  Цепь1: {Цепь1}  Цепь2: {Цепь2}  Цепь27: {Цепь27}  Цепь28: {Цепь28}  Цепь29: {Цепь29}  Цепь30: {Цепь30}  Цепь31: {Цепь31}  Цепь32: {Цепь32}  Цепь33: {Цепь33}  Цепь34: {Цепь34}  Цепь35: {Цепь35}
part A pins: 1, 2, 3, 4, 5, 6, 7, 8, 9, 10, 11, 12, 13, 14, 15, 16, 17, 18, 19, 20, 21, 22, 23, 24, 25, 26, 27, 28, 29, 30, 31, 32, 33, 34, 35
part B pins: 36, 37, 38, 39, 40, 41, 42, 43, 44, 45, 46, 47, 48, 49, 50, 51, 52, 53, 54, 55, 56, 57, 58, 59, 60, 61, 62, 63, 64, 65, 66, 67, 68, 69, 70
part A text: Конт.; Цепь
part B text: Конт.; Цепь

## con-ru-f-76
designator XS?  Цепь26: {Цепь26}  Цепь23: {Цепь23}  Цепь20: {Цепь20}  Цепь17: {Цепь17}  Цепь14: {Цепь14}  Цепь12: {Цепь12}  Цепь11: {Цепь11}  Цепь9: {Цепь9}  Цепь8: {Цепь8}  Цепь6: {Цепь6}  Цепь5: {Цепь5}  Цепь3: {Цепь3}  Цепь24: {Цепь24}  Цепь25: {Цепь25}  Цепь21: {Цепь21}  Цепь18: {Цепь18}  Цепь22: {Цепь22}  Цепь19: {Цепь19}  Цепь15: {Цепь15}  Цепь16: {Цепь16}  Цепь13: {Цепь13}  Цепь7: {Цепь7}  Цепь10: {Цепь10}  Цепь4: {Цепь4}  Цепь1: {Цепь1}  Цепь2: {Цепь2}  Цепь27: {Цепь27}  Цепь28: {Цепь28}  Цепь29: {Цепь29}  Цепь30: {Цепь30}  Цепь31: {Цепь31}  Цепь32: {Цепь32}  Цепь33: {Цепь33}  Цепь34: {Цепь34}  Цепь35: {Цепь35}  Цепь36: {Цепь36}  Цепь37: {Цепь37}  Цепь38: {Цепь38}
part A pins: 1, 2, 3, 4, 5, 6, 7, 8, 9, 10, 11, 12, 13, 14, 15, 16, 17, 18, 19, 20, 21, 22, 23, 24, 25, 26, 27, 28, 29, 30, 31, 32, 33, 34, 35, 36, 37, 38
part B pins: 39, 40, 41, 42, 43, 44, 45, 46, 47, 48, 49, 50, 51, 52, 53, 54, 55, 56, 57, 58, 59, 60, 61, 62, 63, 64, 65, 66, 67, 68, 69, 70, 71, 72, 73, 74, 75, 76
part A text: Конт.; Цепь
part B text: Конт.; Цепь

## con-ru-m-1
designator XP?  Цепь1: {Цепь1}
pins: 1
text: Конт.; Цепь

## con-ru-m-2
designator XP?  Цепь2: {Цепь2}  Цепь1: {Цепь1}
pins: 1, 2
text: Конт.; Цепь

## con-ru-m-3
designator XP?  Цепь2: {Цепь2}  Цепь1: {Цепь1}  Цепь3: {Цепь3}
pins: 1, 2, 3
text: Конт.; Цепь

## con-ru-m-4
designator XP?  Цепь2: {Цепь2}  Цепь4: {Цепь4}  Цепь3: {Цепь3}  Цепь1: {Цепь1}
pins: 1, 2, 3, 4
text: Конт.; Цепь

## con-ru-m-5
designator XP?  Цепь5: {Цепь5}  Цепь2: {Цепь2}  Цепь4: {Цепь4}  Цепь3: {Цепь3}  Цепь1: {Цепь1}
pins: 1, 2, 3, 4, 5
text: Конт.; Цепь

## con-ru-m-6
designator XP?  Цепь5: {Цепь5}  Цепь2: {Цепь2}  Цепь6: {Цепь6}  Цепь4: {Цепь4}  Цепь3: {Цепь3}  Цепь1: {Цепь1}
pins: 1, 2, 3, 4, 5, 6
text: Конт.; Цепь

## con-ru-m-7
designator XP?  Цепь5: {Цепь5}  Цепь2: {Цепь2}  Цепь6: {Цепь6}  Цепь4: {Цепь4}  Цепь7: {Цепь7}  Цепь3: {Цепь3}  Цепь1: {Цепь1}
pins: 1, 2, 3, 4, 5, 6, 7
text: Конт.; Цепь

## con-ru-m-8
designator XP?  Цепь8: {Цепь8}  Цепь5: {Цепь5}  Цепь2: {Цепь2}  Цепь6: {Цепь6}  Цепь4: {Цепь4}  Цепь7: {Цепь7}  Цепь3: {Цепь3}  Цепь1: {Цепь1}
pins: 1, 2, 3, 4, 5, 6, 7, 8
text: Конт.; Цепь

## con-ru-m-9
designator XP?  Цепь8: {Цепь8}  Цепь5: {Цепь5}  Цепь2: {Цепь2}  Цепь6: {Цепь6}  Цепь4: {Цепь4}  Цепь7: {Цепь7}  Цепь3: {Цепь3}  Цепь1: {Цепь1}  Цепь9: {Цепь9}
pins: 1, 2, 3, 4, 5, 6, 7, 8, 9
text: Конт.; Цепь

## con-ru-m-10
designator XP?  Цепь8: {Цепь8}  Цепь5: {Цепь5}  Цепь2: {Цепь2}  Цепь6: {Цепь6}  Цепь4: {Цепь4}  Цепь7: {Цепь7}  Цепь3: {Цепь3}  Цепь1: {Цепь1}  Цепь9: {Цепь9}  Цепь10: {Цепь10}
pins: 1, 2, 3, 4, 5, 6, 7, 8, 9, 10
text: Конт.; Цепь

## con-ru-m-11
designator XP?  Цепь8: {Цепь8}  Цепь5: {Цепь5}  Цепь2: {Цепь2}  Цепь6: {Цепь6}  Цепь4: {Цепь4}  Цепь7: {Цепь7}  Цепь3: {Цепь3}  Цепь1: {Цепь1}  Цепь9: {Цепь9}  Цепь10: {Цепь10}  Цепь11: {Цепь11}
pins: 1, 2, 3, 4, 5, 6, 7, 8, 9, 10, 11
text: Конт.; Цепь

## con-ru-m-12
designator XP?  Цепь8: {Цепь8}  Цепь5: {Цепь5}  Цепь2: {Цепь2}  Цепь6: {Цепь6}  Цепь4: {Цепь4}  Цепь7: {Цепь7}  Цепь3: {Цепь3}  Цепь1: {Цепь1}  Цепь9: {Цепь9}  Цепь10: {Цепь10}  Цепь11: {Цепь11}  Цепь12: {Цепь12}
pins: 1, 2, 3, 4, 5, 6, 7, 8, 9, 10, 11, 12
text: Конт.; Цепь

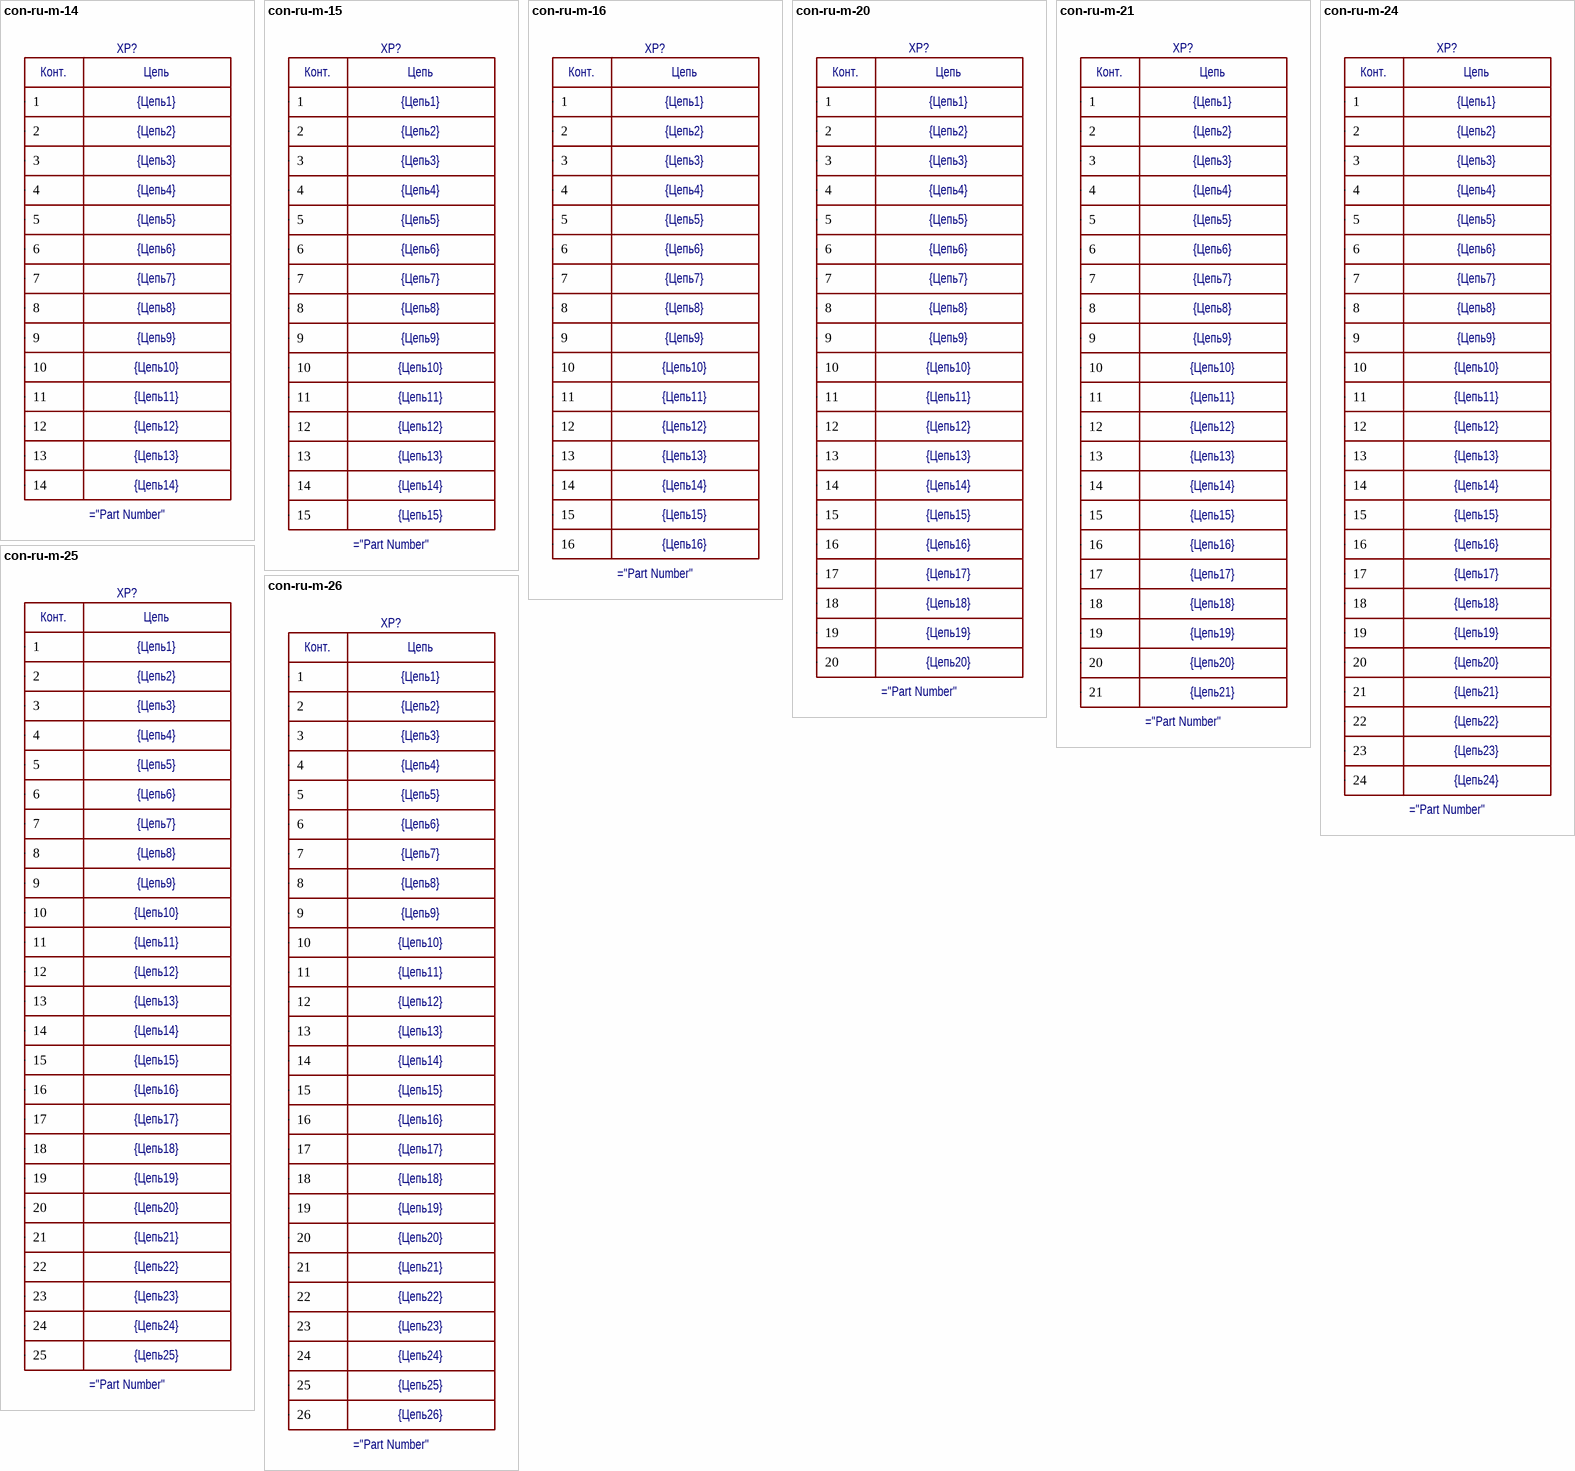
[diagram p5: symbols con-ru-m-14 to con-ru-m-26]

## con-ru-m-14
designator XP?  Цепь8: {Цепь8}  Цепь5: {Цепь5}  Цепь2: {Цепь2}  Цепь6: {Цепь6}  Цепь4: {Цепь4}  Цепь7: {Цепь7}  Цепь3: {Цепь3}  Цепь1: {Цепь1}  Цепь9: {Цепь9}  Цепь10: {Цепь10}  Цепь11: {Цепь11}  Цепь12: {Цепь12}  Цепь13: {Цепь13}  Цепь14: {Цепь14}
pins: 1, 2, 3, 4, 5, 6, 7, 8, 9, 10, 11, 12, 13, 14
text: Конт.; Цепь

## con-ru-m-15
designator XP?  Цепь8: {Цепь8}  Цепь5: {Цепь5}  Цепь2: {Цепь2}  Цепь6: {Цепь6}  Цепь4: {Цепь4}  Цепь7: {Цепь7}  Цепь3: {Цепь3}  Цепь1: {Цепь1}  Цепь9: {Цепь9}  Цепь10: {Цепь10}  Цепь11: {Цепь11}  Цепь12: {Цепь12}  Цепь13: {Цепь13}  Цепь14: {Цепь14}  Цепь15: {Цепь15}
pins: 1, 2, 3, 4, 5, 6, 7, 8, 9, 10, 11, 12, 13, 14, 15
text: Конт.; Цепь

## con-ru-m-16
designator XP?  Цепь8: {Цепь8}  Цепь5: {Цепь5}  Цепь2: {Цепь2}  Цепь6: {Цепь6}  Цепь4: {Цепь4}  Цепь7: {Цепь7}  Цепь3: {Цепь3}  Цепь1: {Цепь1}  Цепь9: {Цепь9}  Цепь10: {Цепь10}  Цепь11: {Цепь11}  Цепь12: {Цепь12}  Цепь13: {Цепь13}  Цепь14: {Цепь14}  Цепь15: {Цепь15}  Цепь16: {Цепь16}
pins: 1, 2, 3, 4, 5, 6, 7, 8, 9, 10, 11, 12, 13, 14, 15, 16
text: Конт.; Цепь

## con-ru-m-20
designator XP?  Цепь18: {Цепь18}  Цепь15: {Цепь15}  Цепь12: {Цепь12}  Цепь10: {Цепь10}  Цепь9: {Цепь9}  Цепь7: {Цепь7}  Цепь6: {Цепь6}  Цепь4: {Цепь4}  Цепь3: {Цепь3}  Цепь1: {Цепь1}  Цепь20: {Цепь20}  Цепь17: {Цепь17}  Цепь19: {Цепь19}  Цепь14: {Цепь14}  Цепь11: {Цепь11}  Цепь13: {Цепь13}  Цепь8: {Цепь8}  Цепь5: {Цепь5}  Цепь2: {Цепь2}  Цепь16: {Цепь16}
pins: 1, 2, 3, 4, 5, 6, 7, 8, 9, 10, 11, 12, 13, 14, 15, 16, 17, 18, 19, 20
text: Конт.; Цепь

## con-ru-m-21
designator XP?  Цепь21: {Цепь21}  Цепь18: {Цепь18}  Цепь15: {Цепь15}  Цепь12: {Цепь12}  Цепь10: {Цепь10}  Цепь9: {Цепь9}  Цепь7: {Цепь7}  Цепь6: {Цепь6}  Цепь4: {Цепь4}  Цепь3: {Цепь3}  Цепь1: {Цепь1}  Цепь20: {Цепь20}  Цепь17: {Цепь17}  Цепь19: {Цепь19}  Цепь14: {Цепь14}  Цепь11: {Цепь11}  Цепь13: {Цепь13}  Цепь8: {Цепь8}  Цепь5: {Цепь5}  Цепь2: {Цепь2}  Цепь16: {Цепь16}
pins: 1, 2, 3, 4, 5, 6, 7, 8, 9, 10, 11, 12, 13, 14, 15, 16, 17, 18, 19, 20, 21
text: Конт.; Цепь

## con-ru-m-24
designator XP?  Цепь24: {Цепь24}  Цепь21: {Цепь21}  Цепь18: {Цепь18}  Цепь15: {Цепь15}  Цепь12: {Цепь12}  Цепь10: {Цепь10}  Цепь9: {Цепь9}  Цепь7: {Цепь7}  Цепь6: {Цепь6}  Цепь4: {Цепь4}  Цепь3: {Цепь3}  Цепь1: {Цепь1}  Цепь23: {Цепь23}  Цепь20: {Цепь20}  Цепь17: {Цепь17}  Цепь22: {Цепь22}  Цепь19: {Цепь19}  Цепь14: {Цепь14}  Цепь11: {Цепь11}  Цепь13: {Цепь13}  Цепь8: {Цепь8}  Цепь5: {Цепь5}  Цепь2: {Цепь2}  Цепь16: {Цепь16}
pins: 1, 2, 3, 4, 5, 6, 7, 8, 9, 10, 11, 12, 13, 14, 15, 16, 17, 18, 19, 20, 21, 22, 23, 24
text: Конт.; Цепь

## con-ru-m-25
designator XP?  Цепь24: {Цепь24}  Цепь21: {Цепь21}  Цепь18: {Цепь18}  Цепь15: {Цепь15}  Цепь12: {Цепь12}  Цепь10: {Цепь10}  Цепь9: {Цепь9}  Цепь7: {Цепь7}  Цепь6: {Цепь6}  Цепь4: {Цепь4}  Цепь3: {Цепь3}  Цепь1: {Цепь1}  Цепь23: {Цепь23}  Цепь25: {Цепь25}  Цепь20: {Цепь20}  Цепь17: {Цепь17}  Цепь22: {Цепь22}  Цепь19: {Цепь19}  Цепь14: {Цепь14}  Цепь11: {Цепь11}  Цепь13: {Цепь13}  Цепь8: {Цепь8}  Цепь5: {Цепь5}  Цепь2: {Цепь2}  Цепь16: {Цепь16}
pins: 1, 2, 3, 4, 5, 6, 7, 8, 9, 10, 11, 12, 13, 14, 15, 16, 17, 18, 19, 20, 21, 22, 23, 24, 25
text: Конт.; Цепь

## con-ru-m-26
designator XP?  Цепь24: {Цепь24}  Цепь21: {Цепь21}  Цепь18: {Цепь18}  Цепь15: {Цепь15}  Цепь12: {Цепь12}  Цепь10: {Цепь10}  Цепь9: {Цепь9}  Цепь7: {Цепь7}  Цепь6: {Цепь6}  Цепь4: {Цепь4}  Цепь3: {Цепь3}  Цепь1: {Цепь1}  Цепь26: {Цепь26}  Цепь23: {Цепь23}  Цепь25: {Цепь25}  Цепь20: {Цепь20}  Цепь17: {Цепь17}  Цепь22: {Цепь22}  Цепь19: {Цепь19}  Цепь14: {Цепь14}  Цепь11: {Цепь11}  Цепь13: {Цепь13}  Цепь8: {Цепь8}  Цепь5: {Цепь5}  Цепь2: {Цепь2}  Цепь16: {Цепь16}
pins: 1, 2, 3, 4, 5, 6, 7, 8, 9, 10, 11, 12, 13, 14, 15, 16, 17, 18, 19, 20, 21, 22, 23, 24, 25, 26
text: Конт.; Цепь

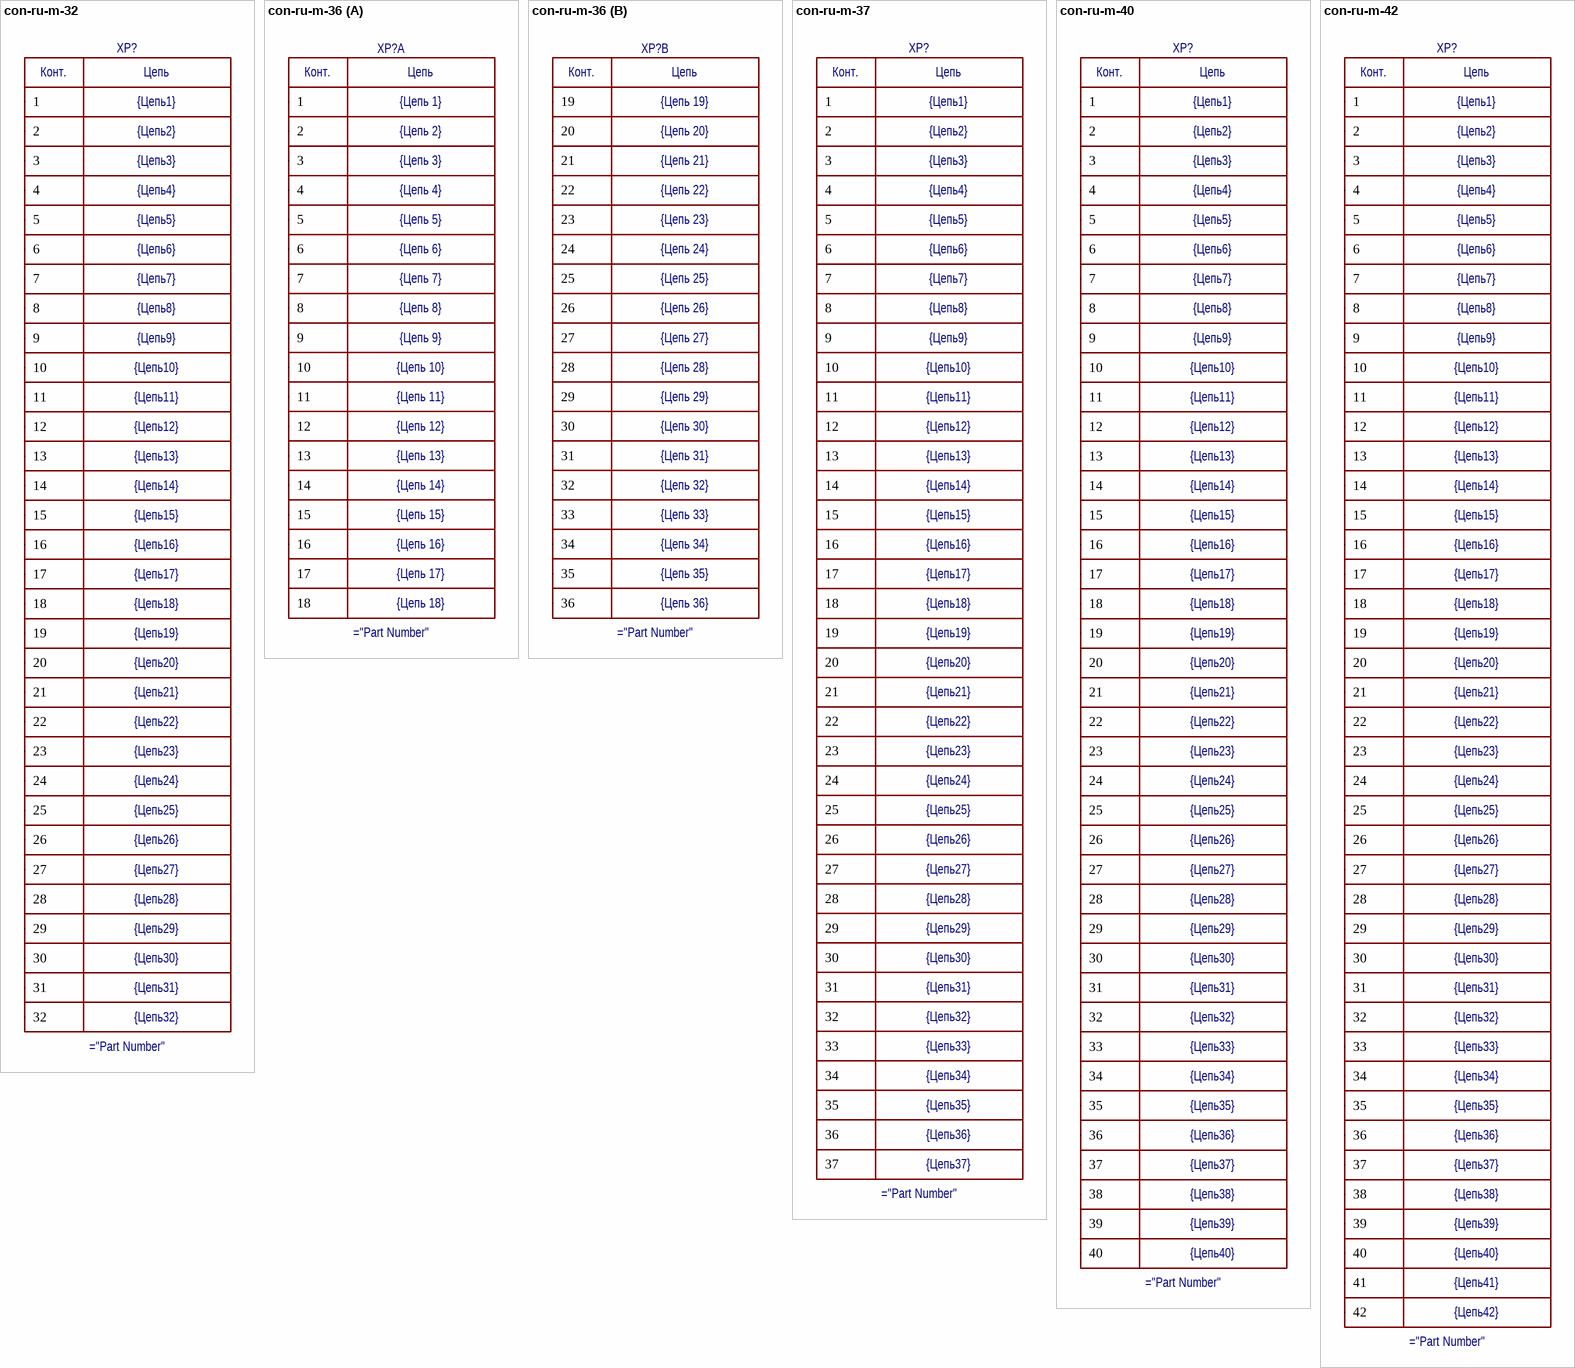
[diagram p6: symbols con-ru-m-32 to con-ru-m-42]

## con-ru-m-32
designator XP?  Цепь30: {Цепь30}  Цепь27: {Цепь27}  Цепь24: {Цепь24}  Цепь21: {Цепь21}  Цепь18: {Цепь18}  Цепь15: {Цепь15}  Цепь12: {Цепь12}  Цепь10: {Цепь10}  Цепь9: {Цепь9}  Цепь7: {Цепь7}  Цепь6: {Цепь6}  Цепь4: {Цепь4}  Цепь3: {Цепь3}  Цепь1: {Цепь1}  Цепь32: {Цепь32}  Цепь31: {Цепь31}  Цепь28: {Цепь28}  Цепь26: {Цепь26}  Цепь23: {Цепь23}  Цепь25: {Цепь25}  Цепь20: {Цепь20}  Цепь17: {Цепь17}  Цепь22: {Цепь22}  Цепь19: {Цепь19}  Цепь14: {Цепь14}  Цепь11: {Цепь11}  Цепь13: {Цепь13}  Цепь8: {Цепь8}  Цепь5: {Цепь5}  Цепь2: {Цепь2}  Цепь29: {Цепь29}  Цепь16: {Цепь16}
pins: 1, 2, 3, 4, 5, 6, 7, 8, 9, 10, 11, 12, 13, 14, 15, 16, 17, 18, 19, 20, 21, 22, 23, 24, 25, 26, 27, 28, 29, 30, 31, 32
text: Конт.; Цепь

## con-ru-m-36
designator XP?
part A pins: 1, 2, 3, 4, 5, 6, 7, 8, 9, 10, 11, 12, 13, 14, 15, 16, 17, 18
part B pins: 19, 20, 21, 22, 23, 24, 25, 26, 27, 28, 29, 30, 31, 32, 33, 34, 35, 36
part A text: Конт.; Цепь; {Цепь 1}; {Цепь 2}; {Цепь 3}; {Цепь 4}; {Цепь 5}; {Цепь 6}; {Цепь 7}; {Цепь 8}; {Цепь 9}; {Цепь 10}; {Цепь 11}; {Цепь 12}; {Цепь 13}; {Цепь 14}; {Цепь 15}; {Цепь 16}; {Цепь 17}; {Цепь 18}
part B text: Конт.; Цепь; {Цепь 19}; {Цепь 20}; {Цепь 21}; {Цепь 22}; {Цепь 23}; {Цепь 24}; {Цепь 25}; {Цепь 26}; {Цепь 27}; {Цепь 28}; {Цепь 29}; {Цепь 30}; {Цепь 31}; {Цепь 32}; {Цепь 33}; {Цепь 34}; {Цепь 35}; {Цепь 36}

## con-ru-m-37
designator XP?  Цепь36: {Цепь36}  Цепь35: {Цепь35}  Цепь33: {Цепь33}  Цепь30: {Цепь30}  Цепь27: {Цепь27}  Цепь24: {Цепь24}  Цепь21: {Цепь21}  Цепь18: {Цепь18}  Цепь15: {Цепь15}  Цепь12: {Цепь12}  Цепь10: {Цепь10}  Цепь9: {Цепь9}  Цепь7: {Цепь7}  Цепь6: {Цепь6}  Цепь4: {Цепь4}  Цепь3: {Цепь3}  Цепь1: {Цепь1}  Цепь37: {Цепь37}  Цепь34: {Цепь34}  Цепь32: {Цепь32}  Цепь31: {Цепь31}  Цепь28: {Цепь28}  Цепь26: {Цепь26}  Цепь23: {Цепь23}  Цепь25: {Цепь25}  Цепь20: {Цепь20}  Цепь17: {Цепь17}  Цепь22: {Цепь22}  Цепь19: {Цепь19}  Цепь14: {Цепь14}  Цепь11: {Цепь11}  Цепь13: {Цепь13}  Цепь8: {Цепь8}  Цепь5: {Цепь5}  Цепь2: {Цепь2}  Цепь29: {Цепь29}  Цепь16: {Цепь16}
pins: 1, 2, 3, 4, 5, 6, 7, 8, 9, 10, 11, 12, 13, 14, 15, 16, 17, 18, 19, 20, 21, 22, 23, 24, 25, 26, 27, 28, 29, 30, 31, 32, 33, 34, 35, 36, 37
text: Конт.; Цепь

## con-ru-m-40
designator XP?  Цепь39: {Цепь39}  Цепь38: {Цепь38}  Цепь36: {Цепь36}  Цепь35: {Цепь35}  Цепь33: {Цепь33}  Цепь30: {Цепь30}  Цепь27: {Цепь27}  Цепь24: {Цепь24}  Цепь21: {Цепь21}  Цепь18: {Цепь18}  Цепь15: {Цепь15}  Цепь12: {Цепь12}  Цепь10: {Цепь10}  Цепь9: {Цепь9}  Цепь7: {Цепь7}  Цепь6: {Цепь6}  Цепь4: {Цепь4}  Цепь3: {Цепь3}  Цепь1: {Цепь1}  Цепь37: {Цепь37}  Цепь40: {Цепь40}  Цепь34: {Цепь34}  Цепь32: {Цепь32}  Цепь31: {Цепь31}  Цепь28: {Цепь28}  Цепь26: {Цепь26}  Цепь23: {Цепь23}  Цепь25: {Цепь25}  Цепь20: {Цепь20}  Цепь17: {Цепь17}  Цепь22: {Цепь22}  Цепь19: {Цепь19}  Цепь14: {Цепь14}  Цепь11: {Цепь11}  Цепь13: {Цепь13}  Цепь8: {Цепь8}  Цепь5: {Цепь5}  Цепь2: {Цепь2}  Цепь29: {Цепь29}  Цепь16: {Цепь16}
pins: 1, 2, 3, 4, 5, 6, 7, 8, 9, 10, 11, 12, 13, 14, 15, 16, 17, 18, 19, 20, 21, 22, 23, 24, 25, 26, 27, 28, 29, 30, 31, 32, 33, 34, 35, 36, 37, 38, 39, 40
text: Конт.; Цепь

## con-ru-m-42
designator XP?  Цепь42: {Цепь42}  Цепь41: {Цепь41}  Цепь39: {Цепь39}  Цепь38: {Цепь38}  Цепь36: {Цепь36}  Цепь35: {Цепь35}  Цепь33: {Цепь33}  Цепь30: {Цепь30}  Цепь27: {Цепь27}  Цепь24: {Цепь24}  Цепь21: {Цепь21}  Цепь18: {Цепь18}  Цепь15: {Цепь15}  Цепь12: {Цепь12}  Цепь10: {Цепь10}  Цепь9: {Цепь9}  Цепь7: {Цепь7}  Цепь6: {Цепь6}  Цепь4: {Цепь4}  Цепь3: {Цепь3}  Цепь1: {Цепь1}  Цепь37: {Цепь37}  Цепь40: {Цепь40}  Цепь34: {Цепь34}  Цепь32: {Цепь32}  Цепь31: {Цепь31}  Цепь28: {Цепь28}  Цепь26: {Цепь26}  Цепь23: {Цепь23}  Цепь25: {Цепь25}  Цепь20: {Цепь20}  Цепь17: {Цепь17}  Цепь22: {Цепь22}  Цепь19: {Цепь19}  Цепь14: {Цепь14}  Цепь11: {Цепь11}  Цепь13: {Цепь13}  Цепь8: {Цепь8}  Цепь5: {Цепь5}  Цепь2: {Цепь2}  Цепь29: {Цепь29}  Цепь16: {Цепь16}
pins: 1, 2, 3, 4, 5, 6, 7, 8, 9, 10, 11, 12, 13, 14, 15, 16, 17, 18, 19, 20, 21, 22, 23, 24, 25, 26, 27, 28, 29, 30, 31, 32, 33, 34, 35, 36, 37, 38, 39, 40, 41, 42
text: Конт.; Цепь

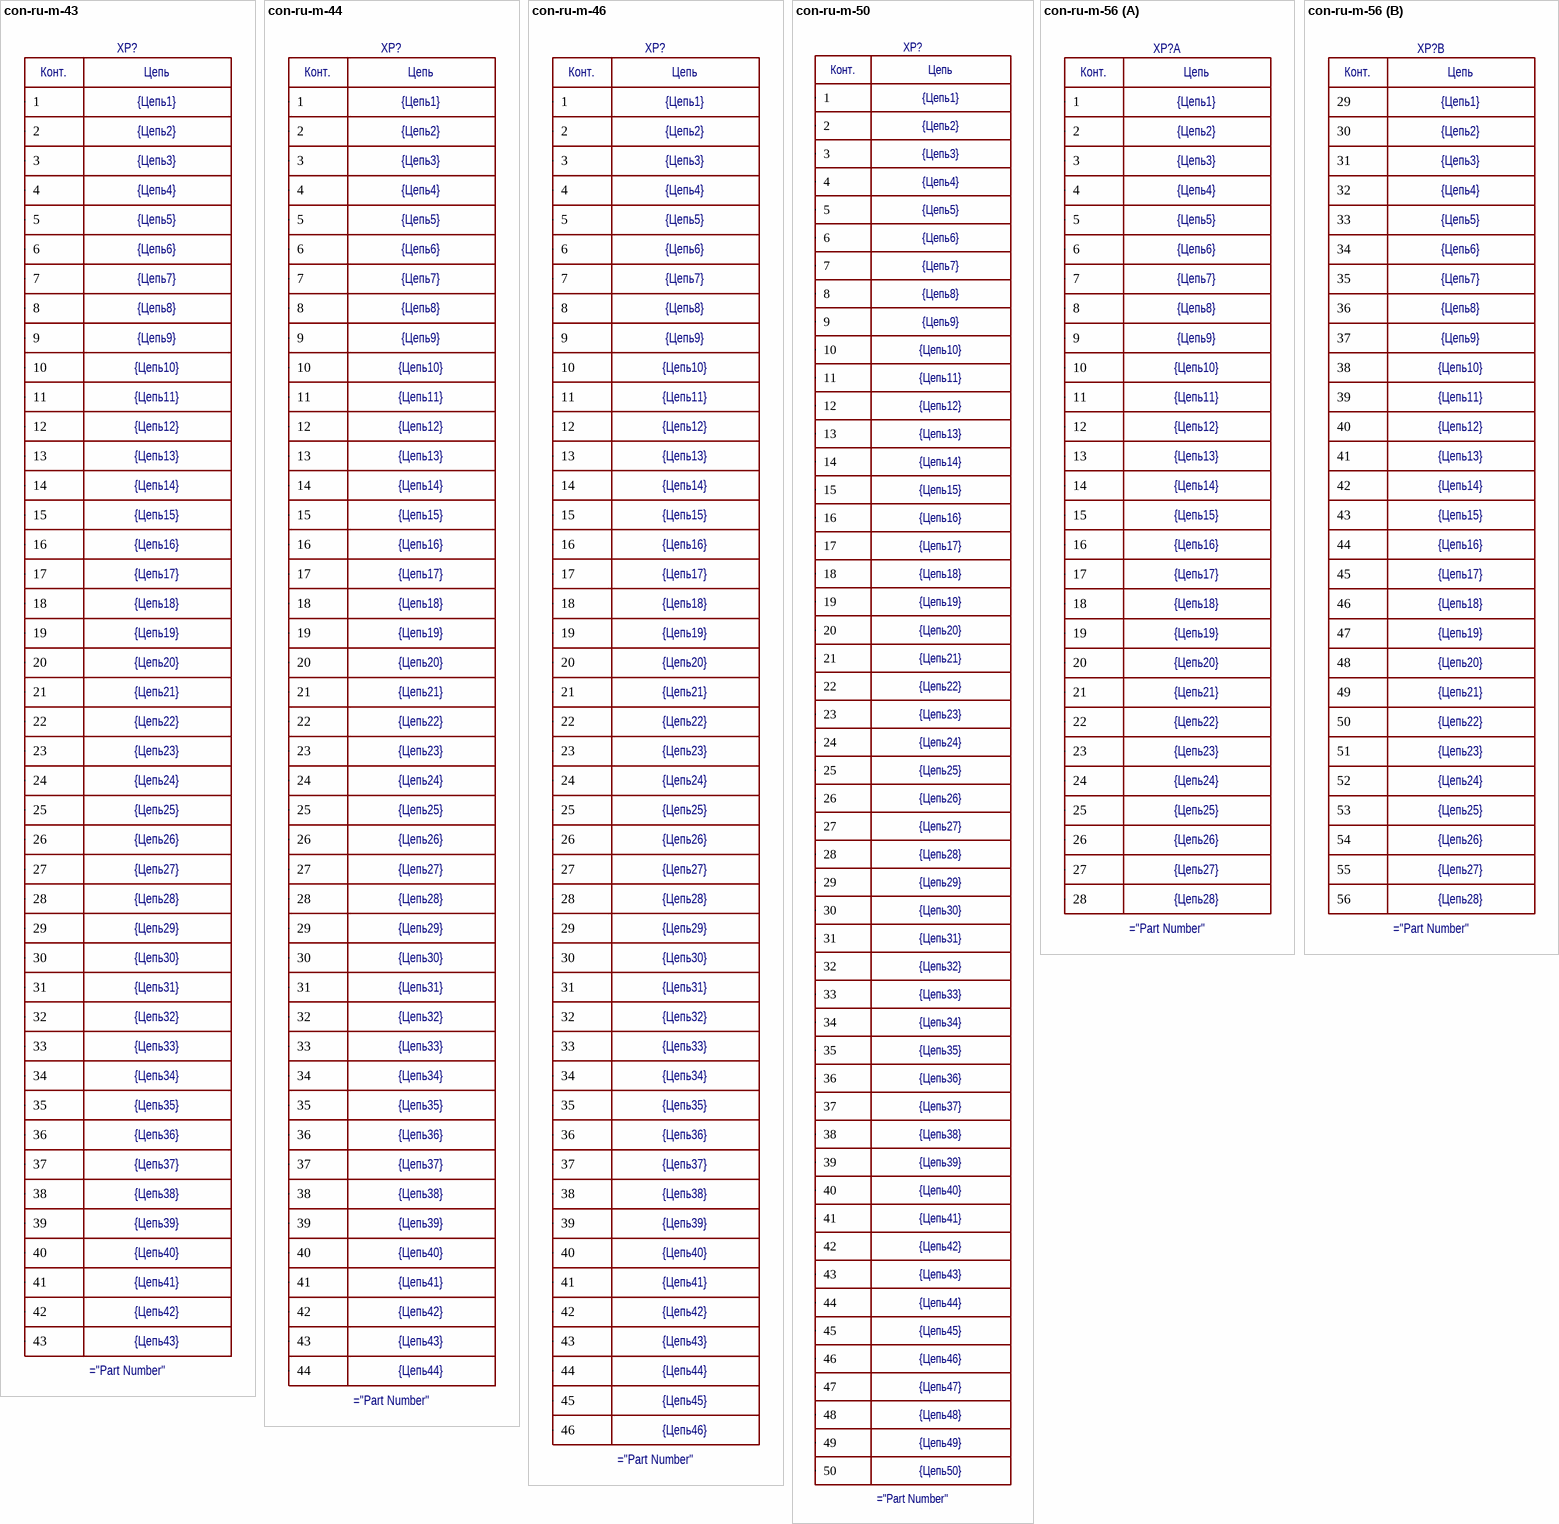
[diagram p7: symbols con-ru-m-43 to con-ru-m-56]

## con-ru-m-43
designator XP?  Цепь42: {Цепь42}  Цепь41: {Цепь41}  Цепь39: {Цепь39}  Цепь38: {Цепь38}  Цепь36: {Цепь36}  Цепь35: {Цепь35}  Цепь33: {Цепь33}  Цепь30: {Цепь30}  Цепь27: {Цепь27}  Цепь24: {Цепь24}  Цепь21: {Цепь21}  Цепь18: {Цепь18}  Цепь15: {Цепь15}  Цепь12: {Цепь12}  Цепь10: {Цепь10}  Цепь9: {Цепь9}  Цепь7: {Цепь7}  Цепь6: {Цепь6}  Цепь4: {Цепь4}  Цепь3: {Цепь3}  Цепь1: {Цепь1}  Цепь37: {Цепь37}  Цепь40: {Цепь40}  Цепь34: {Цепь34}  Цепь32: {Цепь32}  Цепь31: {Цепь31}  Цепь28: {Цепь28}  Цепь26: {Цепь26}  Цепь23: {Цепь23}  Цепь25: {Цепь25}  Цепь20: {Цепь20}  Цепь17: {Цепь17}  Цепь22: {Цепь22}  Цепь19: {Цепь19}  Цепь14: {Цепь14}  Цепь11: {Цепь11}  Цепь13: {Цепь13}  Цепь8: {Цепь8}  Цепь5: {Цепь5}  Цепь2: {Цепь2}  Цепь29: {Цепь29}  Цепь16: {Цепь16}  Цепь43: {Цепь43}
pins: 1, 2, 3, 4, 5, 6, 7, 8, 9, 10, 11, 12, 13, 14, 15, 16, 17, 18, 19, 20, 21, 22, 23, 24, 25, 26, 27, 28, 29, 30, 31, 32, 33, 34, 35, 36, 37, 38, 39, 40, 41, 42, 43
text: Конт.; Цепь

## con-ru-m-44
designator XP?  Цепь42: {Цепь42}  Цепь41: {Цепь41}  Цепь39: {Цепь39}  Цепь38: {Цепь38}  Цепь36: {Цепь36}  Цепь35: {Цепь35}  Цепь33: {Цепь33}  Цепь30: {Цепь30}  Цепь27: {Цепь27}  Цепь24: {Цепь24}  Цепь21: {Цепь21}  Цепь18: {Цепь18}  Цепь15: {Цепь15}  Цепь12: {Цепь12}  Цепь10: {Цепь10}  Цепь9: {Цепь9}  Цепь7: {Цепь7}  Цепь6: {Цепь6}  Цепь4: {Цепь4}  Цепь3: {Цепь3}  Цепь1: {Цепь1}  Цепь37: {Цепь37}  Цепь40: {Цепь40}  Цепь34: {Цепь34}  Цепь32: {Цепь32}  Цепь31: {Цепь31}  Цепь28: {Цепь28}  Цепь26: {Цепь26}  Цепь23: {Цепь23}  Цепь25: {Цепь25}  Цепь20: {Цепь20}  Цепь17: {Цепь17}  Цепь22: {Цепь22}  Цепь19: {Цепь19}  Цепь14: {Цепь14}  Цепь11: {Цепь11}  Цепь13: {Цепь13}  Цепь8: {Цепь8}  Цепь5: {Цепь5}  Цепь2: {Цепь2}  Цепь29: {Цепь29}  Цепь16: {Цепь16}  Цепь43: {Цепь43}  Цепь44: {Цепь44}
pins: 1, 2, 3, 4, 5, 6, 7, 8, 9, 10, 11, 12, 13, 14, 15, 16, 17, 18, 19, 20, 21, 22, 23, 24, 25, 26, 27, 28, 29, 30, 31, 32, 33, 34, 35, 36, 37, 38, 39, 40, 41, 42, 43, 44
text: Конт.; Цепь

## con-ru-m-46
designator XP?  Цепь42: {Цепь42}  Цепь41: {Цепь41}  Цепь39: {Цепь39}  Цепь38: {Цепь38}  Цепь36: {Цепь36}  Цепь35: {Цепь35}  Цепь33: {Цепь33}  Цепь30: {Цепь30}  Цепь27: {Цепь27}  Цепь24: {Цепь24}  Цепь21: {Цепь21}  Цепь18: {Цепь18}  Цепь15: {Цепь15}  Цепь12: {Цепь12}  Цепь10: {Цепь10}  Цепь9: {Цепь9}  Цепь7: {Цепь7}  Цепь6: {Цепь6}  Цепь4: {Цепь4}  Цепь3: {Цепь3}  Цепь1: {Цепь1}  Цепь37: {Цепь37}  Цепь40: {Цепь40}  Цепь34: {Цепь34}  Цепь32: {Цепь32}  Цепь31: {Цепь31}  Цепь28: {Цепь28}  Цепь26: {Цепь26}  Цепь23: {Цепь23}  Цепь25: {Цепь25}  Цепь20: {Цепь20}  Цепь17: {Цепь17}  Цепь22: {Цепь22}  Цепь19: {Цепь19}  Цепь14: {Цепь14}  Цепь11: {Цепь11}  Цепь13: {Цепь13}  Цепь8: {Цепь8}  Цепь5: {Цепь5}  Цепь2: {Цепь2}  Цепь29: {Цепь29}  Цепь16: {Цепь16}  Цепь43: {Цепь43}  Цепь44: {Цепь44}  Цепь45: {Цепь45}  Цепь46: {Цепь46}
pins: 1, 2, 3, 4, 5, 6, 7, 8, 9, 10, 11, 12, 13, 14, 15, 16, 17, 18, 19, 20, 21, 22, 23, 24, 25, 26, 27, 28, 29, 30, 31, 32, 33, 34, 35, 36, 37, 38, 39, 40, 41, 42, 43, 44, 45, 46
text: Конт.; Цепь

## con-ru-m-50
designator XP?  Цепь49: {Цепь49}  Цепь46: {Цепь46}  Цепь44: {Цепь44}  Цепь43: {Цепь43}  Цепь41: {Цепь41}  Цепь40: {Цепь40}  Цепь38: {Цепь38}  Цепь37: {Цепь37}  Цепь35: {Цепь35}  Цепь32: {Цепь32}  Цепь29: {Цепь29}  Цепь26: {Цепь26}  Цепь23: {Цепь23}  Цепь20: {Цепь20}  Цепь17: {Цепь17}  Цепь14: {Цепь14}  Цепь12: {Цепь12}  Цепь11: {Цепь11}  Цепь9: {Цепь9}  Цепь8: {Цепь8}  Цепь6: {Цепь6}  Цепь5: {Цепь5}  Цепь3: {Цепь3}  Цепь50: {Цепь50}  Цепь48: {Цепь48}  Цепь45: {Цепь45}  Цепь42: {Цепь42}  Цепь36: {Цепь36}  Цепь39: {Цепь39}  Цепь33: {Цепь33}  Цепь30: {Цепь30}  Цепь34: {Цепь34}  Цепь31: {Цепь31}  Цепь27: {Цепь27}  Цепь24: {Цепь24}  Цепь28: {Цепь28}  Цепь25: {Цепь25}  Цепь21: {Цепь21}  Цепь18: {Цепь18}  Цепь22: {Цепь22}  Цепь19: {Цепь19}  Цепь15: {Цепь15}  Цепь16: {Цепь16}  Цепь13: {Цепь13}  Цепь7: {Цепь7}  Цепь10: {Цепь10}  Цепь4: {Цепь4}  Цепь1: {Цепь1}  Цепь2: {Цепь2}  Цепь47: {Цепь47}
pins: 1, 2, 3, 4, 5, 6, 7, 8, 9, 10, 11, 12, 13, 14, 15, 16, 17, 18, 19, 20, 21, 22, 23, 24, 25, 26, 27, 28, 29, 30, 31, 32, 33, 34, 35, 36, 37, 38, 39, 40, 41, 42, 43, 44, 45, 46, 47, 48, 49, 50
text: Конт.; Цепь

## con-ru-m-56
designator XP?  Цепь26: {Цепь26}  Цепь23: {Цепь23}  Цепь20: {Цепь20}  Цепь17: {Цепь17}  Цепь14: {Цепь14}  Цепь12: {Цепь12}  Цепь11: {Цепь11}  Цепь9: {Цепь9}  Цепь8: {Цепь8}  Цепь6: {Цепь6}  Цепь5: {Цепь5}  Цепь3: {Цепь3}  Цепь24: {Цепь24}  Цепь25: {Цепь25}  Цепь21: {Цепь21}  Цепь18: {Цепь18}  Цепь22: {Цепь22}  Цепь19: {Цепь19}  Цепь15: {Цепь15}  Цепь16: {Цепь16}  Цепь13: {Цепь13}  Цепь7: {Цепь7}  Цепь10: {Цепь10}  Цепь4: {Цепь4}  Цепь1: {Цепь1}  Цепь2: {Цепь2}  Цепь27: {Цепь27}  Цепь28: {Цепь28}
part A pins: 1, 2, 3, 4, 5, 6, 7, 8, 9, 10, 11, 12, 13, 14, 15, 16, 17, 18, 19, 20, 21, 22, 23, 24, 25, 26, 27, 28
part B pins: 29, 30, 31, 32, 33, 34, 35, 36, 37, 38, 39, 40, 41, 42, 43, 44, 45, 46, 47, 48, 49, 50, 51, 52, 53, 54, 55, 56
part A text: Конт.; Цепь
part B text: Конт.; Цепь

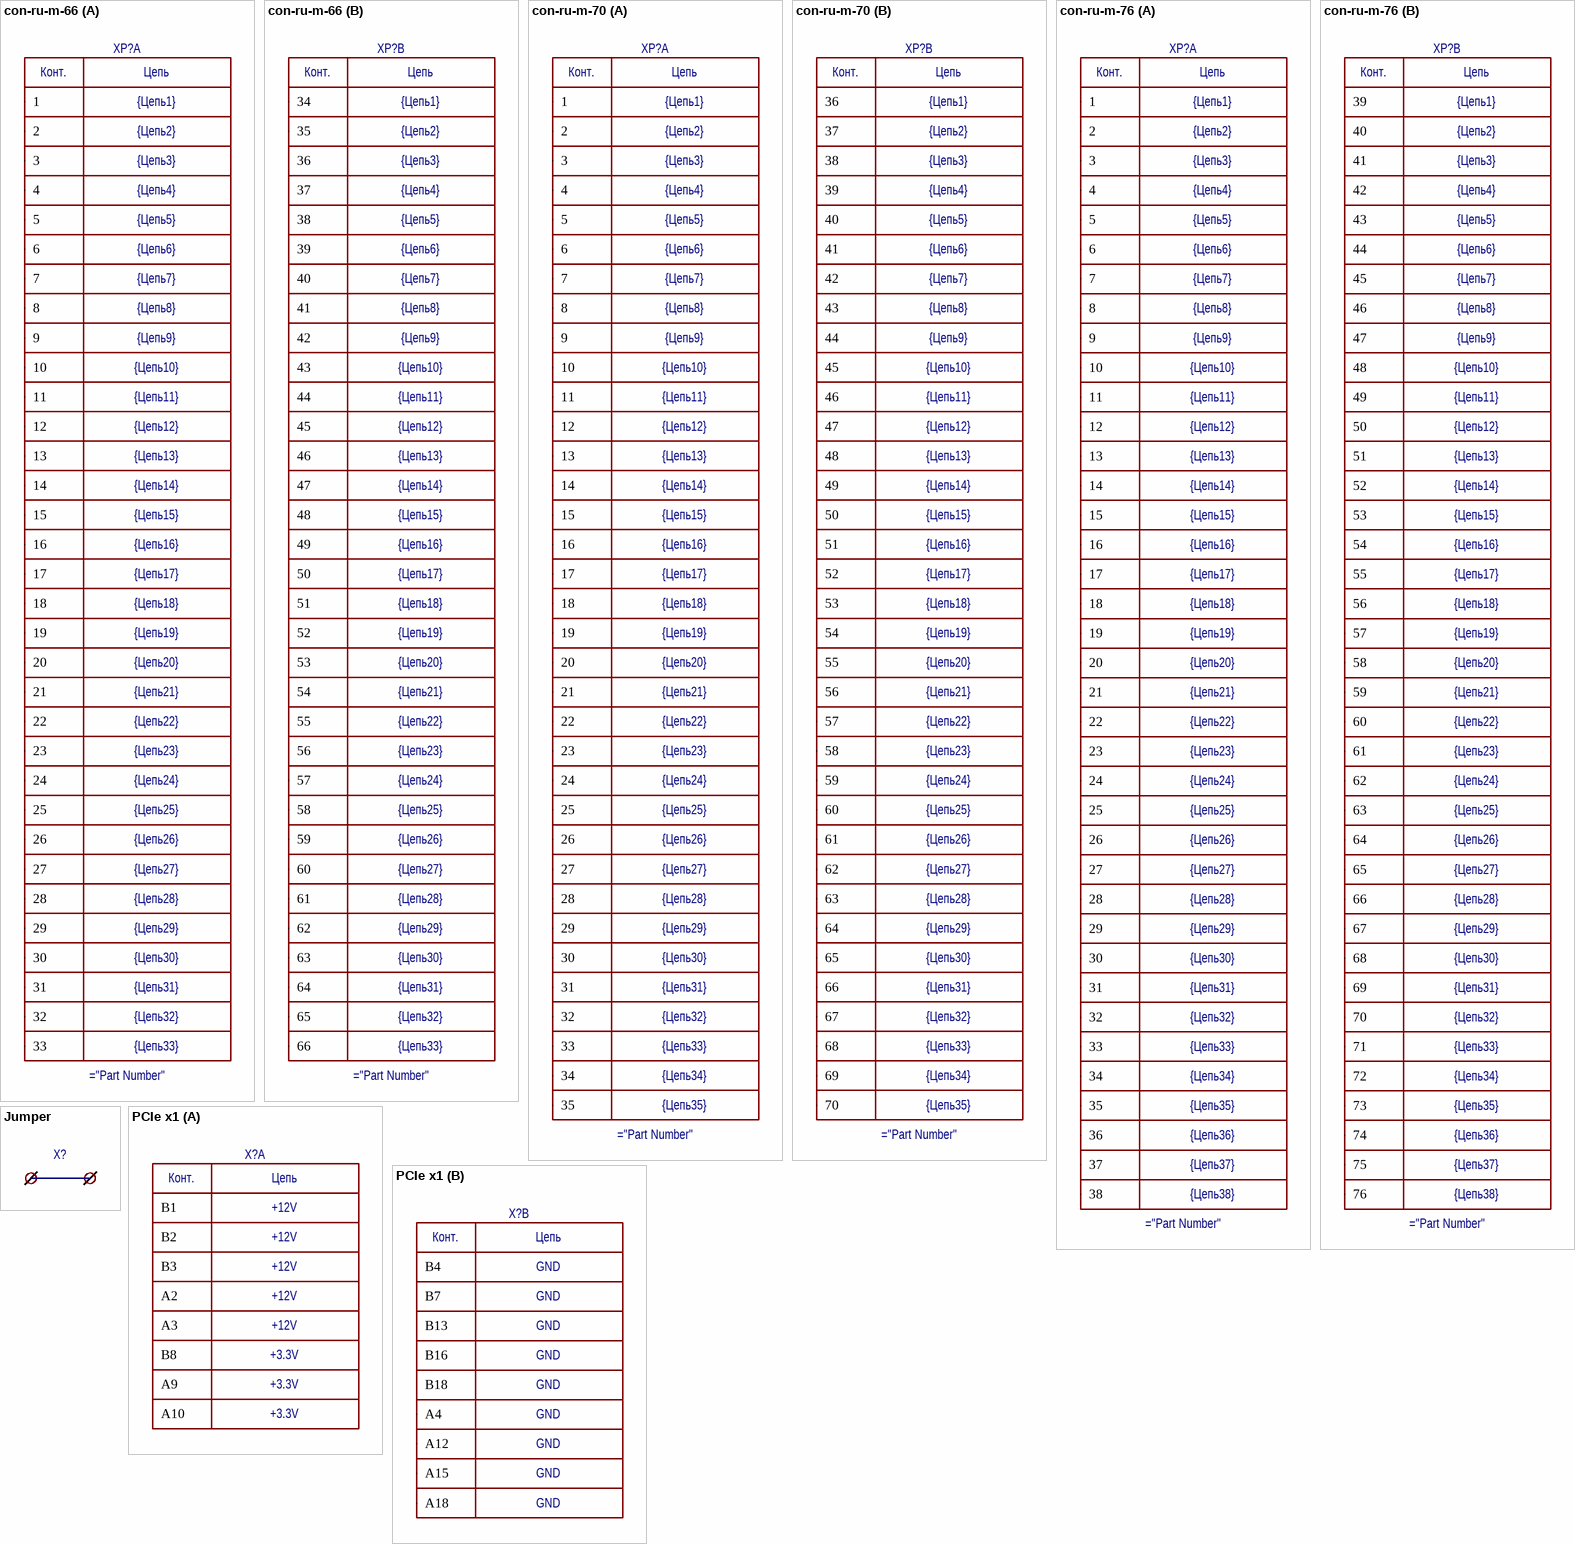
[diagram p8: symbols con-ru-m-66 to PCIe x1]

## con-ru-m-66
designator XP?  Цепь26: {Цепь26}  Цепь23: {Цепь23}  Цепь20: {Цепь20}  Цепь17: {Цепь17}  Цепь14: {Цепь14}  Цепь12: {Цепь12}  Цепь11: {Цепь11}  Цепь9: {Цепь9}  Цепь8: {Цепь8}  Цепь6: {Цепь6}  Цепь5: {Цепь5}  Цепь3: {Цепь3}  Цепь24: {Цепь24}  Цепь25: {Цепь25}  Цепь21: {Цепь21}  Цепь18: {Цепь18}  Цепь22: {Цепь22}  Цепь19: {Цепь19}  Цепь15: {Цепь15}  Цепь16: {Цепь16}  Цепь13: {Цепь13}  Цепь7: {Цепь7}  Цепь10: {Цепь10}  Цепь4: {Цепь4}  Цепь1: {Цепь1}  Цепь2: {Цепь2}  Цепь27: {Цепь27}  Цепь28: {Цепь28}  Цепь29: {Цепь29}  Цепь30: {Цепь30}  Цепь31: {Цепь31}  Цепь32: {Цепь32}  Цепь33: {Цепь33}
part A pins: 1, 2, 3, 4, 5, 6, 7, 8, 9, 10, 11, 12, 13, 14, 15, 16, 17, 18, 19, 20, 21, 22, 23, 24, 25, 26, 27, 28, 29, 30, 31, 32, 33
part B pins: 34, 35, 36, 37, 38, 39, 40, 41, 42, 43, 44, 45, 46, 47, 48, 49, 50, 51, 52, 53, 54, 55, 56, 57, 58, 59, 60, 61, 62, 63, 64, 65, 66
part A text: Конт.; Цепь
part B text: Конт.; Цепь

## con-ru-m-70
designator XP?  Цепь26: {Цепь26}  Цепь23: {Цепь23}  Цепь20: {Цепь20}  Цепь17: {Цепь17}  Цепь14: {Цепь14}  Цепь12: {Цепь12}  Цепь11: {Цепь11}  Цепь9: {Цепь9}  Цепь8: {Цепь8}  Цепь6: {Цепь6}  Цепь5: {Цепь5}  Цепь3: {Цепь3}  Цепь24: {Цепь24}  Цепь25: {Цепь25}  Цепь21: {Цепь21}  Цепь18: {Цепь18}  Цепь22: {Цепь22}  Цепь19: {Цепь19}  Цепь15: {Цепь15}  Цепь16: {Цепь16}  Цепь13: {Цепь13}  Цепь7: {Цепь7}  Цепь10: {Цепь10}  Цепь4: {Цепь4}  Цепь1: {Цепь1}  Цепь2: {Цепь2}  Цепь27: {Цепь27}  Цепь28: {Цепь28}  Цепь29: {Цепь29}  Цепь30: {Цепь30}  Цепь31: {Цепь31}  Цепь32: {Цепь32}  Цепь33: {Цепь33}  Цепь34: {Цепь34}  Цепь35: {Цепь35}
part A pins: 1, 2, 3, 4, 5, 6, 7, 8, 9, 10, 11, 12, 13, 14, 15, 16, 17, 18, 19, 20, 21, 22, 23, 24, 25, 26, 27, 28, 29, 30, 31, 32, 33, 34, 35
part B pins: 36, 37, 38, 39, 40, 41, 42, 43, 44, 45, 46, 47, 48, 49, 50, 51, 52, 53, 54, 55, 56, 57, 58, 59, 60, 61, 62, 63, 64, 65, 66, 67, 68, 69, 70
part A text: Конт.; Цепь
part B text: Конт.; Цепь

## con-ru-m-76
designator XP?  Цепь26: {Цепь26}  Цепь23: {Цепь23}  Цепь20: {Цепь20}  Цепь17: {Цепь17}  Цепь14: {Цепь14}  Цепь12: {Цепь12}  Цепь11: {Цепь11}  Цепь9: {Цепь9}  Цепь8: {Цепь8}  Цепь6: {Цепь6}  Цепь5: {Цепь5}  Цепь3: {Цепь3}  Цепь24: {Цепь24}  Цепь25: {Цепь25}  Цепь21: {Цепь21}  Цепь18: {Цепь18}  Цепь22: {Цепь22}  Цепь19: {Цепь19}  Цепь15: {Цепь15}  Цепь16: {Цепь16}  Цепь13: {Цепь13}  Цепь7: {Цепь7}  Цепь10: {Цепь10}  Цепь4: {Цепь4}  Цепь1: {Цепь1}  Цепь2: {Цепь2}  Цепь27: {Цепь27}  Цепь28: {Цепь28}  Цепь29: {Цепь29}  Цепь30: {Цепь30}  Цепь31: {Цепь31}  Цепь32: {Цепь32}  Цепь33: {Цепь33}  Цепь34: {Цепь34}  Цепь35: {Цепь35}  Цепь36: {Цепь36}  Цепь37: {Цепь37}  Цепь38: {Цепь38}
part A pins: 1, 2, 3, 4, 5, 6, 7, 8, 9, 10, 11, 12, 13, 14, 15, 16, 17, 18, 19, 20, 21, 22, 23, 24, 25, 26, 27, 28, 29, 30, 31, 32, 33, 34, 35, 36, 37, 38
part B pins: 39, 40, 41, 42, 43, 44, 45, 46, 47, 48, 49, 50, 51, 52, 53, 54, 55, 56, 57, 58, 59, 60, 61, 62, 63, 64, 65, 66, 67, 68, 69, 70, 71, 72, 73, 74, 75, 76
part A text: Конт.; Цепь
part B text: Конт.; Цепь

## Jumper
designator X?  (no BOM)
pins: 1, 2

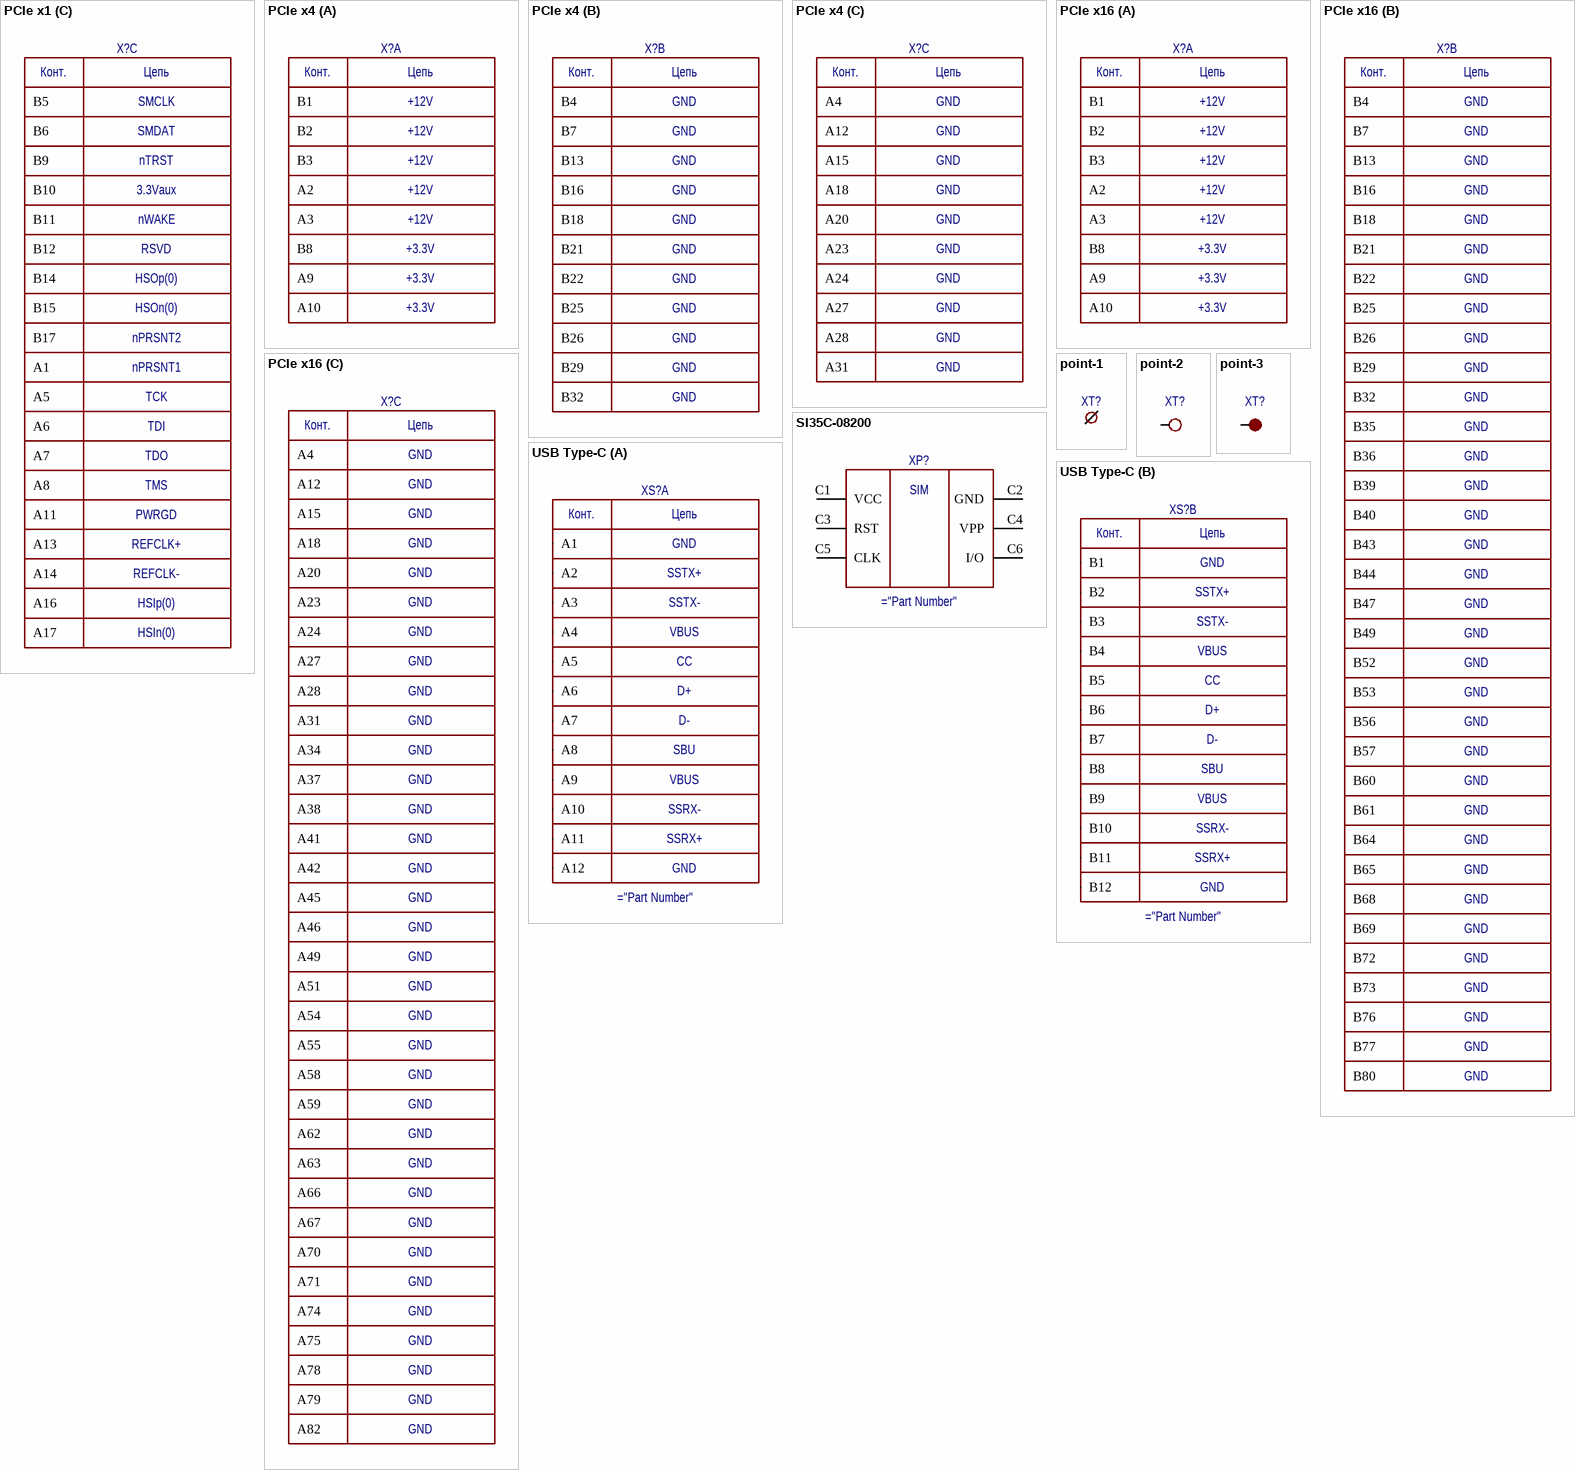
[diagram p9: symbols PCIe x1 to USB Type-C]

## PCIe x1
designator X?
part A pins: A2, A3, A9, A10, B1, B2, B3, B8
part B pins: A4, A12, A15, A18, B4, B7, B13, B16, B18
part C pins: A1, A5, A6, A7, A8, A11, A13, A14, A16, A17, B5, B6, B9, B10, B11, B12, B14, B15, B17
part A text: Конт.; Цепь; +12V; +3.3V
part B text: Конт.; Цепь; GND
part C text: Конт.; Цепь; SMCLK; SMDAT; nTRST; 3.3Vaux; nWAKE; RSVD; HSOp(0); HSOn(0); nPRSNT2; nPRSNT1; TCK; TDI; TDO; TMS; PWRGD; REFCLK+; REFCLK-; HSIp(0); HSIn(0)

## PCIe x4
designator X?
part A pins: A1 hidden, A2, A3, A5 hidden, A6 hidden, A7 hidden, A8 hidden, A9, A10, A11 hidden, A13 hidden, A14 hidden, A16 hidden, A17 hidden, A19 hidden, A21 hidden, A22 hidden, A25 hidden, A26 hidden, A29 hidden, A30 hidden, A32 hidden, A33 hidden, A35 hidden, A36 hidden, A39 hidden, A40 hidden, A43 hidden, A44 hidden, A47 hidden, A48 hidden, A50 hidden, A52 hidden, A53 hidden, A56 hidden, A57 hidden, A60 hidden, A61 hidden, A64 hidden, A65 hidden, A68 hidden, A69 hidden, A72 hidden, A73 hidden, A76 hidden, A77 hidden, A80 hidden, A81 hidden, B1, B2, B3, B5 hidden, B6 hidden, B8, B9 hidden, B10 hidden, B11 hidden, B12 hidden, B14 hidden, B15 hidden, B17 hidden, B19 hidden, B20 hidden, B23 hidden, B24 hidden, B27 hidden, B28 hidden, B30 hidden, B31 hidden, B33 hidden, B34 hidden, B37 hidden, B38 hidden, B41 hidden, B42 hidden, B45 hidden, B46 hidden, B48 hidden, B50 hidden, B51 hidden, B54 hidden, B55 hidden, B58 hidden, B59 hidden, B62 hidden, B63 hidden, B66 hidden, B67 hidden, B70 hidden, B71 hidden, B74 hidden, B75 hidden, B78 hidden, B79 hidden, B81 hidden, B82 hidden
part B pins: B4, B7, B13, B16, B18, B21, B22, B25, B26, B29, B32
part C pins: A4, A12, A15, A18, A20, A23, A24, A27, A28, A31
part A text: Конт.; Цепь; +12V; +3.3V
part B text: Конт.; Цепь; GND
part C text: Конт.; Цепь; GND

## PCIe x16
designator X?
part A pins: A1 hidden, A2, A3, A5 hidden, A6 hidden, A7 hidden, A8 hidden, A9, A10, A11 hidden, A13 hidden, A14 hidden, A16 hidden, A17 hidden, A19 hidden, A21 hidden, A22 hidden, A25 hidden, A26 hidden, A29 hidden, A30 hidden, A32 hidden, A33 hidden, A35 hidden, A36 hidden, A39 hidden, A40 hidden, A43 hidden, A44 hidden, A47 hidden, A48 hidden, A50 hidden, A52 hidden, A53 hidden, A56 hidden, A57 hidden, A60 hidden, A61 hidden, A64 hidden, A65 hidden, A68 hidden, A69 hidden, A72 hidden, A73 hidden, A76 hidden, A77 hidden, A80 hidden, A81 hidden, B1, B2, B3, B5 hidden, B6 hidden, B8, B9 hidden, B10 hidden, B11 hidden, B12 hidden, B14 hidden, B15 hidden, B17 hidden, B19 hidden, B20 hidden, B23 hidden, B24 hidden, B27 hidden, B28 hidden, B30 hidden, B31 hidden, B33 hidden, B34 hidden, B37 hidden, B38 hidden, B41 hidden, B42 hidden, B45 hidden, B46 hidden, B48 hidden, B50 hidden, B51 hidden, B54 hidden, B55 hidden, B58 hidden, B59 hidden, B62 hidden, B63 hidden, B66 hidden, B67 hidden, B70 hidden, B71 hidden, B74 hidden, B75 hidden, B78 hidden, B79 hidden, B81 hidden, B82 hidden
part B pins: B4, B7, B13, B16, B18, B21, B22, B25, B26, B29, B32, B35, B36, B39, B40, B43, B44, B47, B49, B52, B53, B56, B57, B60, B61, B64, B65, B68, B69, B72, B73, B76, B77, B80
part C pins: A4, A12, A15, A18, A20, A23, A24, A27, A28, A31, A34, A37, A38, A41, A42, A45, A46, A49, A51, A54, A55, A58, A59, A62, A63, A66, A67, A70, A71, A74, A75, A78, A79, A82
part A text: Конт.; Цепь; +12V; +3.3V
part B text: Конт.; Цепь; GND
part C text: Конт.; Цепь; GND

## point-1
designator XT?  (no BOM)
pins: 1

## point-2
designator XT?  (no BOM)
pins: 1

## point-3
designator XT?  (no BOM)
pins: 1

## SI35C-08200
designator XP?
MicroSim
pins: 7 hidden, 8 hidden, C1 VCC, C2 GND, C3 RST, C4 VPP, C5 CLK, C6 I/O
text: SIM

## USB Type-C
designator XS?  Цепь8: SBU  Цепь5: CC  Цепь2: SSTX+  Цепь6: D+  Цепь4: VBUS  Цепь7: D-  Цепь3: SSTX-  Цепь1: GND  Цепь10: SSRX-  Цепь11: SSRX+
Цепь9: VBUS; Цепь12: GND
part A pins: A1, A2, A3, A4, A5, A6, A7, A8, A9, A10, A11, A12
part B pins: B1, B2, B3, B4, B5, B6, B7, B8, B9, B10, B11, B12
part A text: Конт.; Цепь
part B text: Конт.; Цепь